# Altium schematic symbol library sun_library2.SchLib: 548 symbols (part 4 of 5)
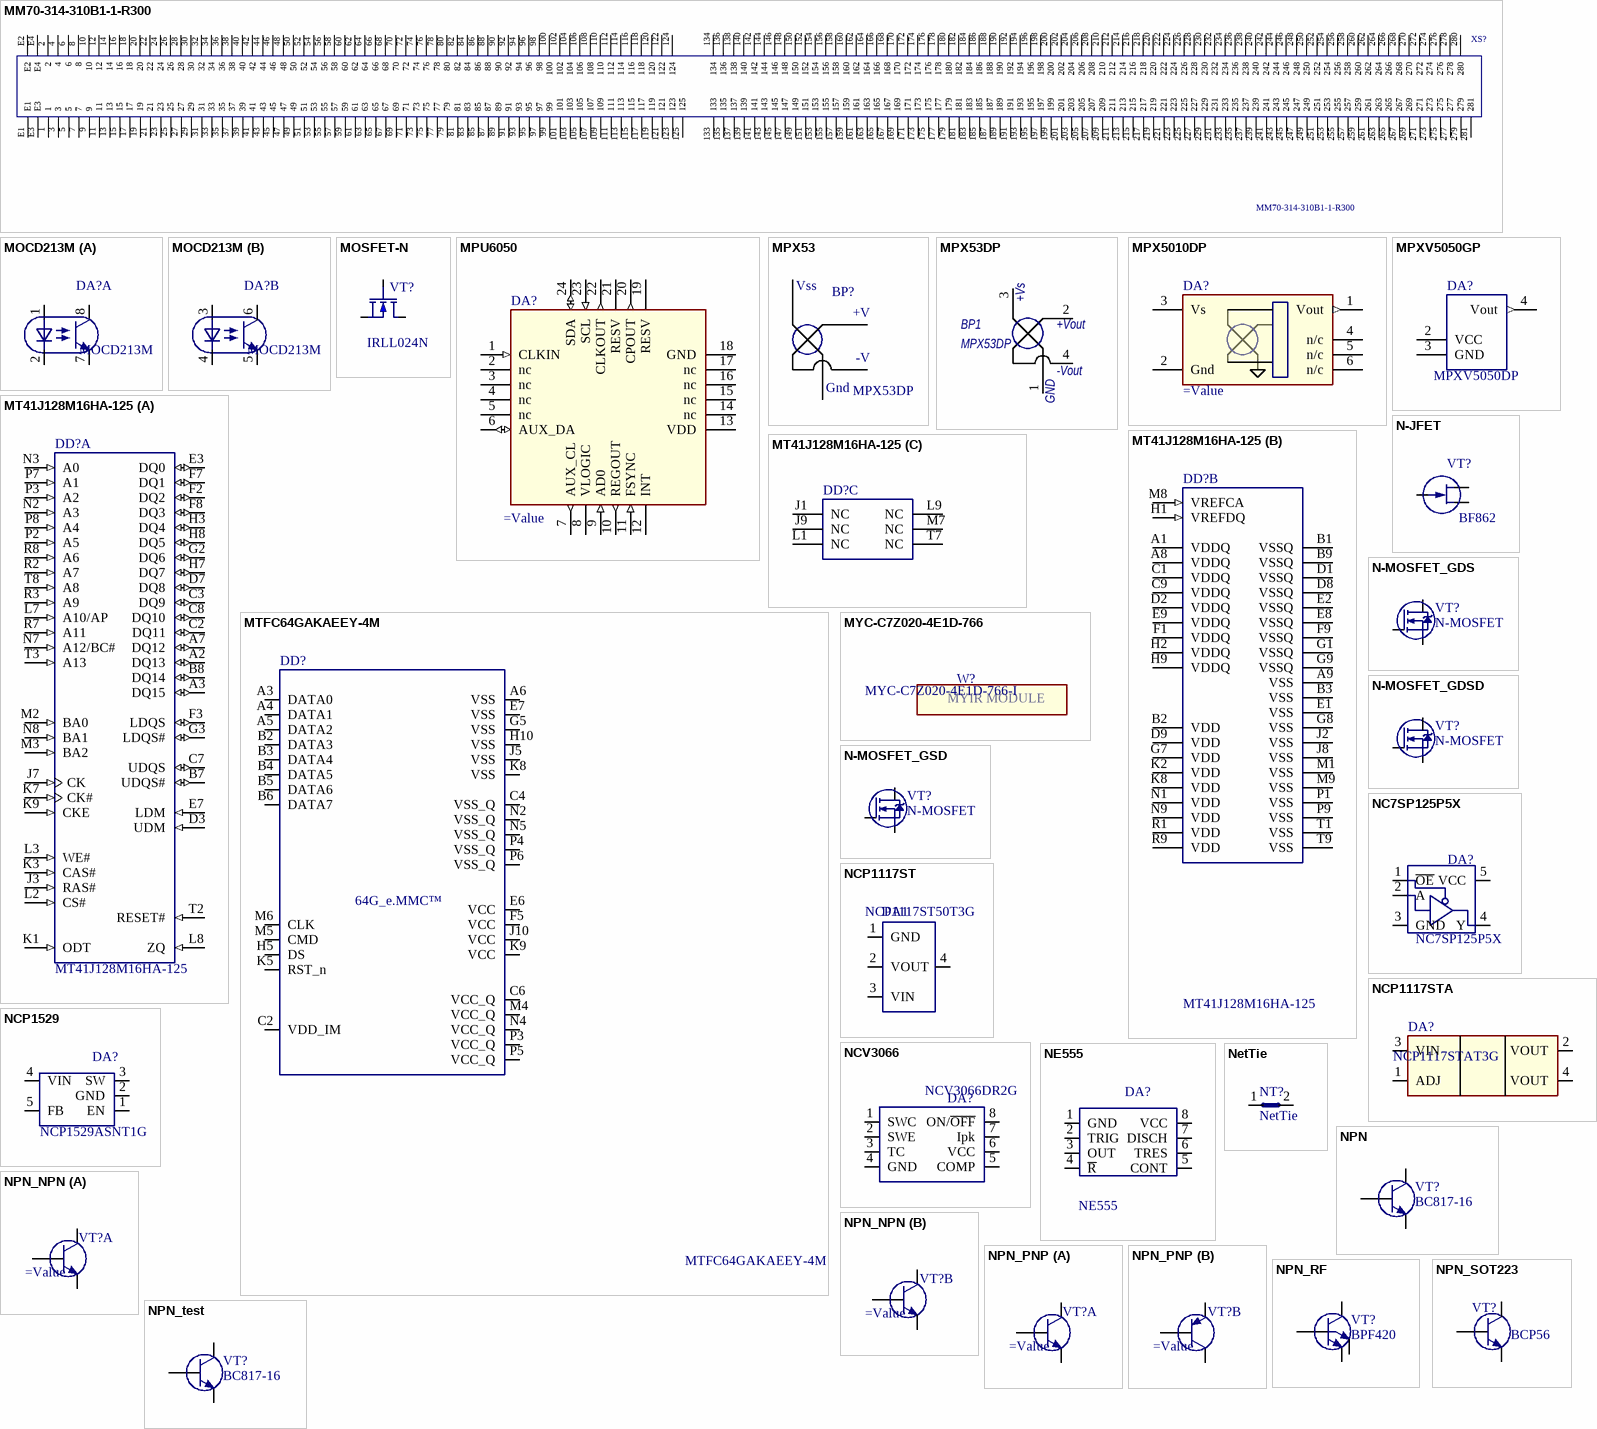
[diagram p48: symbols MM70-314-310B1-1-R300 to NPN_test]

## N-JFET
designator VT?, comment BF862
Транзистор N-channel junction FET; Value: BF862
pins: 1 S, 3 D, 3 G

## N-MOSFET_GDS
designator VT?, comment N-MOSFET
Транзистор N-channel MOSFET; Value: N-MOSFET
pins: 1 G, 2 D, 3 S

## N-MOSFET_GDSD
designator VT?, comment N-MOSFET
Транзистор N-channel MOSFET; Value: N-MOSFET
pins: 1 G, 2 D, 3 S, 4 D

## N-MOSFET_GSD
designator VT?, comment N-MOSFET
Транзистор N-channel MOSFET; Value: N-MOSFET
pins: 1 G, 2 S, 3 D

## NC7SP125P5X
designator DA?
м/сх; Value: NC7SP125P5X
pins: 1 ~{OE} (power), 2 A, 3 GND, 4 Y, 5 VCC

## NCP1117ST
designator DA1, comment NCP1117ST50T3G
Микросхема; Manufacturer: ON Semiconductor; Identifier: NCP1117ST50T3G SOT-223 ON Semiconductors; Case: SOT223; Part Number: NCP1117ST50T3G; Operating Temperature: 0 to 125 °C; Value: NCP1117ST50T3G
footprint SOT223
pins: 1 GND (power), 2 VOUT (power), 3 VIN (power), 4 VOUT (power)

## NCP1117STA
designator DA?, comment NCP1117STAT3G
1.0 A Low-Dropout Positive Adjustable  Voltage Regulator; Value: NCP1117STAT3G
pins: 1 ADJ (power), 2 VOUT (power), 3 VIN (power), 4 VOUT (power)

## NCP1529
designator DA?, comment NCP1529ASNT1G
IC step−down DC−DC converter. NCP1529ASNT1G; Value: NCP1529ASNT1G
pins: 1 EN, 2 GND, 3 SW, 4 VIN, 5 FB

## NCV3066
designator DA?, comment NCV3066DR2G
Constant Current Switching Regulator for LEDs; Value: NCV3066DR2G
pins: 1 SWC, 2 SWE (power), 3 TC, 4 GND, 5 COMP (power), 6 VCC, 7 Ipk, 8 ON/~{OFF} (power)

## NE555
designator DA?
м/сх; Value: NE555
pins: 1 GND (power), 2 TRIG, 3 OUT, 4 ~{R} (power), 5 CONT, 6 TRES, 7 DISCH, 8 VCC

## NetTie
designator NT?  (net tie, no BOM)
Value: NetTie
pins: 1, 2

## NPN
designator VT?, comment BC817-16
NPN Транзистор; Value: BC817-16
pins: 1 B, 2 E, 3 C

## NPN_NPN
designator VT?
Transistor
part A pins: 1 E, 2 B, 6 C
part B pins: 3 C, 4 E, 5 B

## NPN_PNP
designator VT?
Transistor
part A pins: 1 E, 2 B, 6 C
part B pins: 3 C, 4 E, 5 B

## NPN_RF
designator VT?, comment BPF420
NPN RF Транзистор; Value: BPF420
pins: 1 B, 2 E, 3 C, 4 E

## NPN_SOT223
designator VT?, comment BCP56
NPN Транзистор SOT223; Value: BCP56
pins: 1 B, 2 C, 3 E, 4 C

## NPN_test
designator VT?, comment BC817-16
NPN Транзистор; Value: BC817-16
footprint SOT23 - test (SOT-23; 3 Leads; Body 3.0 x 2.5 mm, inc. leads (LxW max))
pins: 1 B, 2 E, 3 C

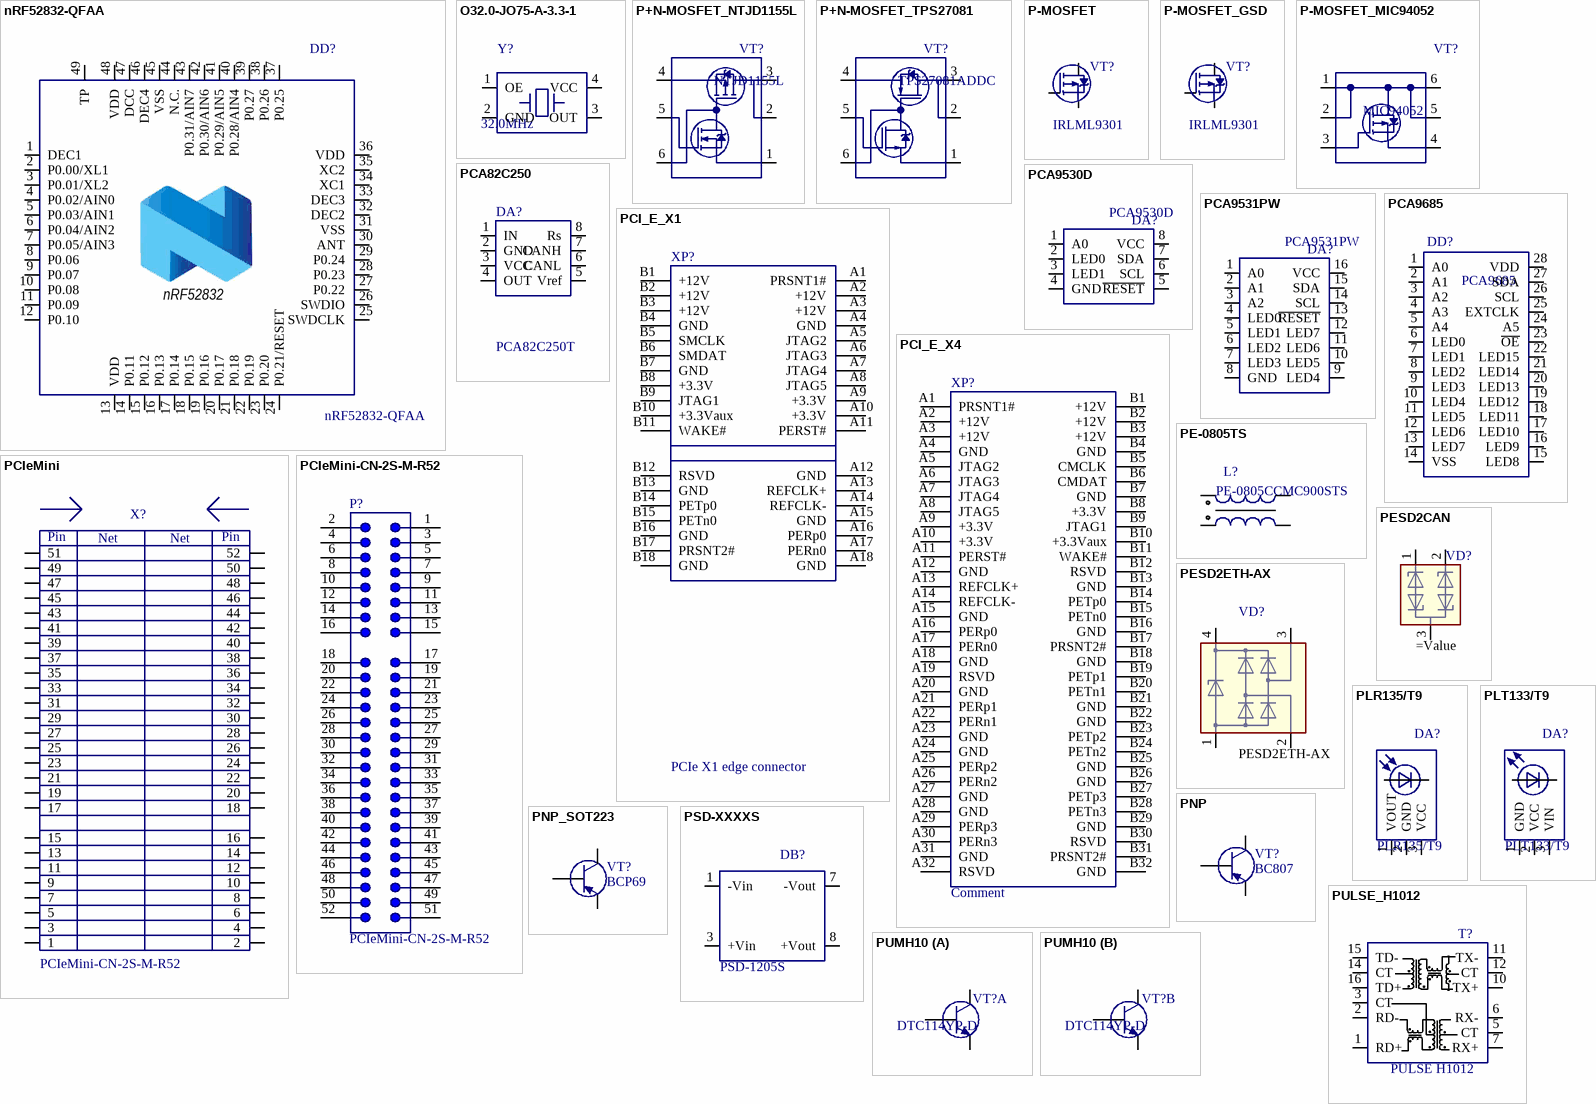
[diagram p35: symbols nRF52832-QFAA to PUMH10]

## nRF52832-QFAA
designator DD?
Микросхема nRF52832-QFAA Nordic Semiconductor; Value: nRF52832-QFAA
pins: 1 DEC1, 2 P0.00/XL1, 3 P0.01/XL2, 4 P0.02/AIN0, 5 P0.03/AIN1, 6 P0.04/AIN2, 7 P0.05/AIN3, 8 P0.06, 9 P0.07, 10 P0.08, 11 P0.09, 12 P0.10, 13 VDD, 14 P0.11, 15 P0.12, 16 P0.13, 17 P0.14, 18 P0.15, 19 P0.16, 20 P0.17, 21 P0.18, 22 P0.19, 23 P0.20, 24 P0.21/RESET, 25 SWDCLK, 26 SWDIO, 27 P0.22, 28 P0.23, 29 P0.24, 30 ANT, 31 VSS, 32 DEC2, 33 DEC3, 34 XC1, 35 XC2, 36 VDD, 37 P0.25, 38 P0.26, 39 P0.27, 40 P0.28/AIN4, 41 P0.29/AIN5, 42 P0.30/AIN6, 43 P0.31/AIN7, 44 N.C., 45 VSS, 46 DEC4, 47 DCC, 48 VDD, 49 TP
text: nRF52832

## O32.0-JO75-A-3.3-1
designator Y?, comment 32.0MHz
Резонатор кварцевый; Value: 32.0MHz
pins: 1 OE, 2 GND, 3 OUT, 4 VCC

## P+N-MOSFET_NTJD1155L
designator VT?, comment NTJD1155L
8 V,  1.3 A, High Side Load Switch with; Value: NTJD1155L
pins: 1, 2, 3, 4, 5, 6

## P+N-MOSFET_TPS27081
designator VT?, comment TPS27081ADDC
1.2V - 8V, 3A PFET High Side Load Switch; Value: TPS27081ADDC
pins: 1, 2, 3, 4, 5, 6

## P-MOSFET
designator VT?, comment IRLML9301
Value: IRLML9301
pins: 1 G, 2 D, 3 S

## P-MOSFET_GSD
designator VT?, comment IRLML9301
Value: IRLML9301
pins: 1 G, 2 S, 3 D

## P-MOSFET_MIC94052
designator VT?, comment MIC94052
5,5V 2A 84mOhm High Side Load Switch with; Value: MIC94052
pins: 1, 2, 3, 4, 5, 6

## PCA82C250
designator DA?, comment PCA82C250T
м/сх; Value: PCA82C250T
pins: 1 IN, 2 GND (power), 3 VCC (power), 4 OUT, 5 Vref (power), 6 CANL, 7 CANH, 8 Rs

## PCA9530D
designator DA?
2-bit I2C-bus LED dimmer; Value: PCA9530D
pins: 1 A0, 2 LED0 (power), 3 LED1, 4 GND, 5 ~{RESET} (power), 6 SCL, 7 SDA, 8 VCC (power)

## PCA9531PW
designator DA?
2-bit I2C-bus LED dimmer; Value: PCA9531PW
pins: 1 A0, 2 A1, 3 A2, 4 LED0 (power), 5 LED1 (power), 6 LED2 (power), 7 LED3 (power), 8 GND, 9 LED4 (power), 10 LED5 (power), 11 LED6 (power), 12 LED7 (power), 13 ~{RESET} (power), 14 SCL, 15 SDA, 16 VCC (power)

## PCA9685
designator DD?
16 chanel PWM I2C controller; Value: PCA9685
pins: 1 A0, 2 A1, 3 A2, 4 A3, 5 A4, 6 LED0, 7 LED1, 8 LED2, 9 LED3, 10 LED4 (power), 11 LED5, 12 LED6, 13 LED7, 14 VSS, 15 LED8, 16 LED9, 17 LED10, 18 LED11, 19 LED12, 20 LED13 (power), 21 LED14 (power), 22 LED15 (power), 23 ~{OE} (power), 24 A5 (power), 25 EXTCLK (power), 26 SCL (power), 27 SDA (power), 28 VDD (power)

## PCI_E_X1
designator XP?, comment PCIe X1 edge connector
Value: PCIe X1 edge connector
pins: A1 PRSNT1#, A2 +12V, A3 +12V, A4 GND, A5 JTAG2, A6 JTAG3, A7 JTAG4, A8 JTAG5, A9 +3.3V, A10 +3.3V, A11 PERST#, A12 GND, A13 REFCLK+, A14 REFCLK-, A15 GND, A16 PERp0, A17 PERn0, A18 GND, B1 +12V, B2 +12V, B3 +12V, B4 GND, B5 SMCLK, B6 SMDAT, B7 GND, B8 +3.3V, B9 JTAG1, B10 +3.3Vaux, B11 WAKE#, B12 RSVD, B13 GND, B14 PETp0, B15 PETn0, B16 GND, B17 PRSNT2#, B18 GND

## PCI_E_X4
designator XP?, comment Comment
Value: Comment
pins: A1 PRSNT1#, A2 +12V, A3 +12V, A4 GND, A5 JTAG2, A6 JTAG3, A7 JTAG4, A8 JTAG5, A9 +3.3V, A10 +3.3V, A11 PERST#, A12 GND, A13 REFCLK+, A14 REFCLK-, A15 GND, A16 PERp0, A17 PERn0, A18 GND, A19 RSVD, A20 GND, A21 PERp1, A22 PERn1, A23 GND, A24 GND, A25 PERp2, A26 PERn2, A27 GND, A28 GND, A29 PERp3, A30 PERn3, A31 GND, A32 RSVD, B1 +12V, B2 +12V, B3 +12V, B4 GND, B5 CMCLK, B6 CMDAT, B7 GND, B8 +3.3V, B9 JTAG1, B10 +3.3Vaux, B11 WAKE#, B12 RSVD, B13 GND, B14 PETp0, B15 PETn0, B16 GND, B17 PRSNT2#, B18 GND, B19 PETp1, B20 PETn1, B21 GND, B22 GND, B23 PETp2, B24 PETn2, B25 GND, B26 GND, B27 PETp3, B28 PETn3, B29 GND, B30 RSVD, B31 PRSNT2#, B32 GND

## PCIeMini
designator X?, comment PCIeMini-CN-2S-M-R52  (no BOM)
Golden finger, PCIeMini, Dual, Staggered, Pitch 0.8mm, 52-Position; Value: PCIeMini-CN-2S-M-R52
pins: 1, 2, 3, 4, 5, 6, 7, 8, 9, 10, 11, 12, 13, 14, 15, 16, 17, 18, 19, 20, 21, 22, 23, 24, 25, 26, 27, 28, 29, 30, 31, 32, 33, 34, 35, 36, 37, 38, 39, 40, 41, 42, 43, 44, 45, 46, 47, 48, 49, 50, 51, 52
text: Net; Pin

## PCIeMini-CN-2S-M-R52
designator P?  (no BOM)
Golden finger, PCIeMini, Dual, Staggered, Pitch 0.8mm, 52-Position; Value: PCIeMini-CN-2S-M-R52
pins: 1, 2, 3, 4, 5, 6, 7, 8, 9, 10, 11, 12, 13, 14, 15, 16, 17, 18, 19, 20, 21, 22, 23, 24, 25, 26, 27, 28, 29, 30, 31, 32, 33, 34, 35, 36, 37, 38, 39, 40, 41, 42, 43, 44, 45, 46, 47, 48, 49, 50, 51, 52

## PE-0805TS
designator L?, comment PE-0805CCMC900STS
2-Line Chip Style  Common Mode Chokes, Pulse; Value: PE-0805CCMC900STS
pins: 1, 2, 3, 4

## PESD2CAN
designator VD?
pins: 1 C1, 2 C2, 3 COM

## PESD2ETH-AX
designator VD?
Value: PESD2ETH-AX
pins: 1, 2, 3, 4

## PLR135/T9
designator DA?
Photolink- Fiber Optic Receiver; Value: PLR135/T9
pins: 1 VOUT (power), 2 GND, 3 NC (power) hidden, 3 VCC, 6 B hidden

## PLT133/T9
designator DA?
Photo-link Light Transmitter Unit; Value: PLT133/T9
pins: 1 GND (power), 2 VCC, 3 NC (power) hidden, 3 VIN, 6 B hidden

## PNP
designator VT?, comment BC807
NPN Транзистор; Value: BC807
pins: 1 B, 2 E, 3 C

## PNP_SOT223
designator VT?, comment BCP69
PNP Транзистор; Value: BCP69
pins: 1 B, 2 C, 3 E, 4 C

## PSD-XXXXS
designator DВ?, comment PSD-1205S
м/сх; Value: PSD-1205S
pins: 1 -Vin (power), 3 +Vin (power), 7 -Vout (power), 8 +Vout (power), 14 NC hidden

## PULSE_H1012
designator T?, comment PULSE H1012
трансформатор; тип: PULSE H1012
footprint PULSE_H1012
pins: 1 RD+, 2 RD-, 3 CT, 5 CT, 6 RX-, 7 RX+, 10 TX+, 11 TX-, 12 CT, 14 CT, 15 TD-, 16 TD+

## PUMH10
designator VT?, comment DTC114YP-D
Value: DTC114YP-D
part A pins: 1 E, 2 B, 6 C
part B pins: 3 C, 4 E, 5 B

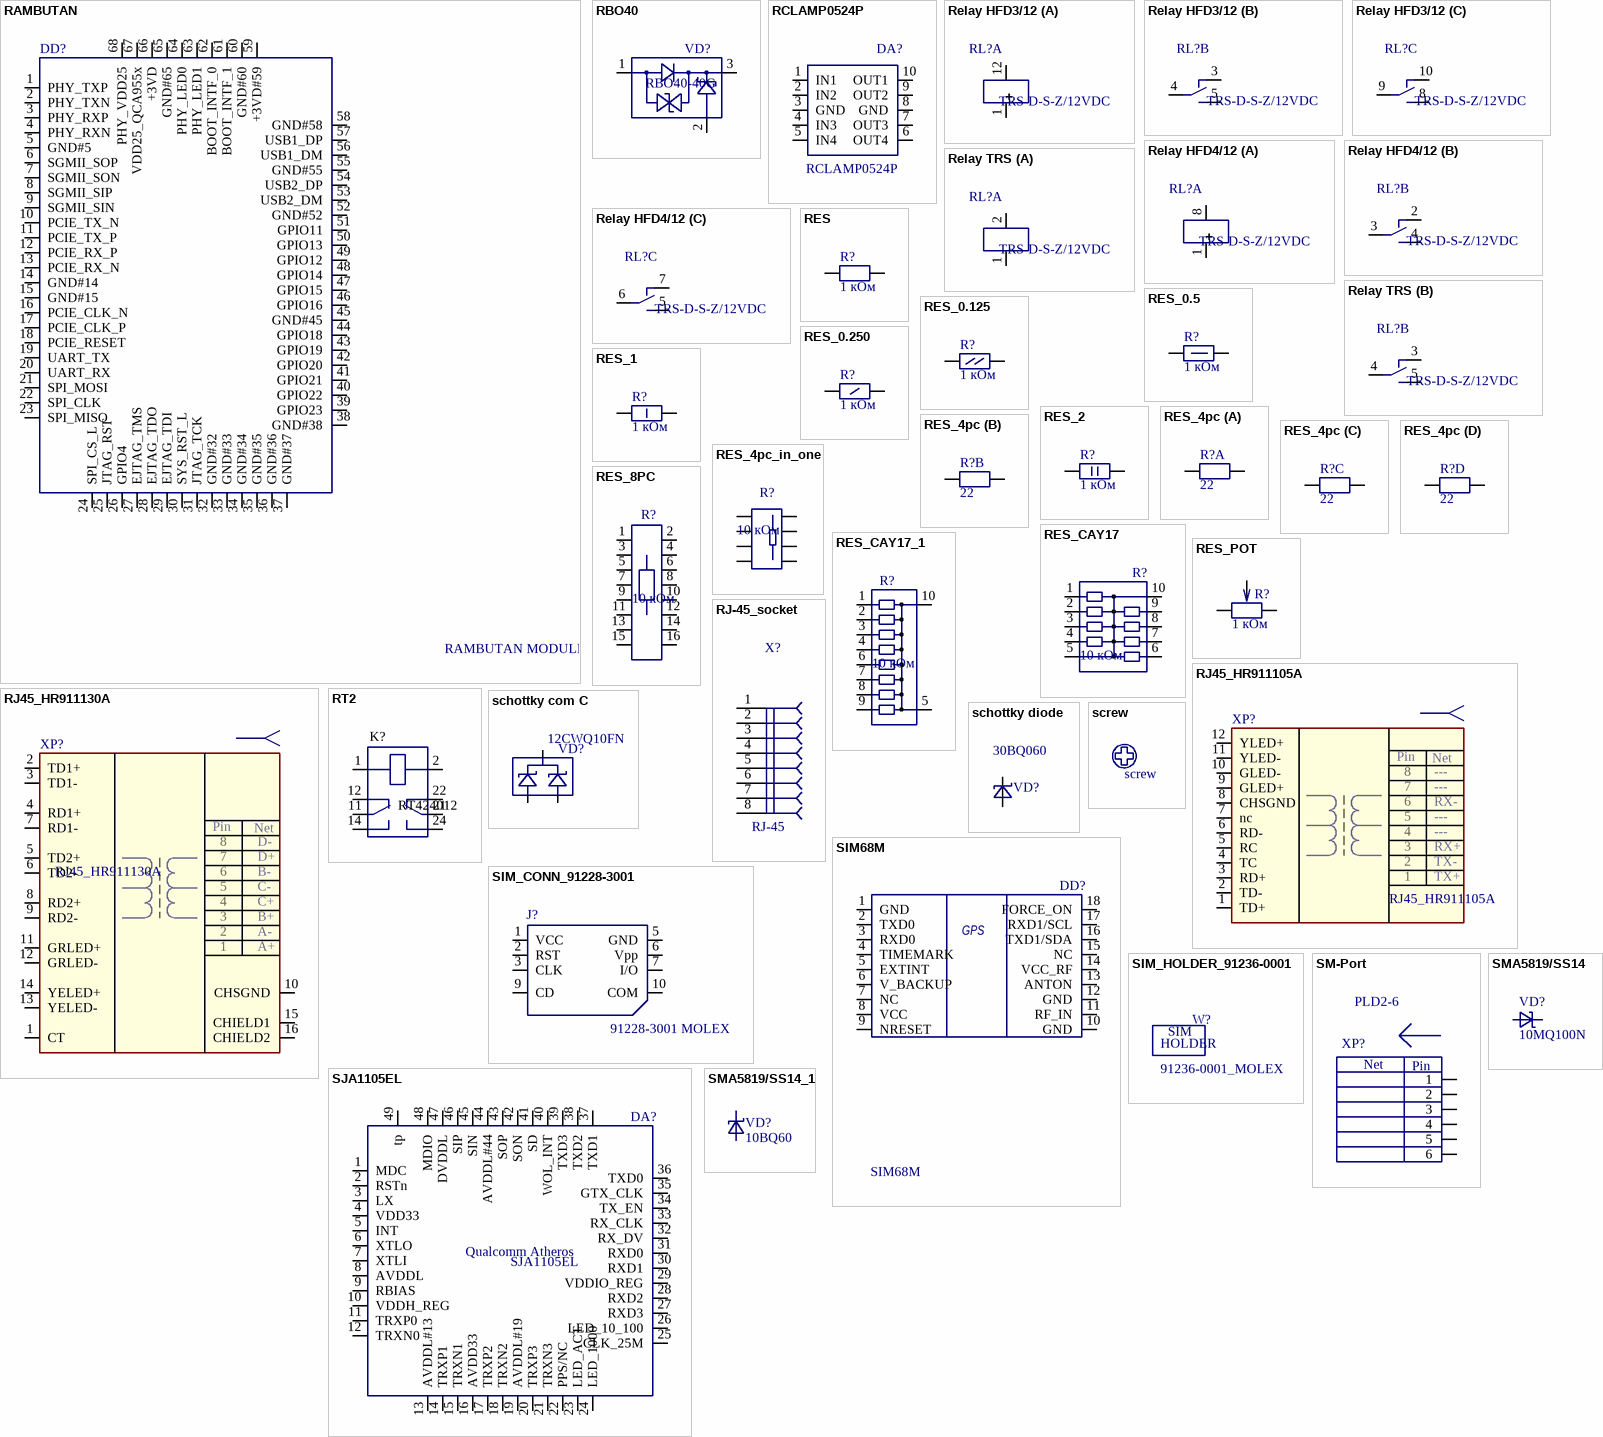
[diagram p36: symbols RAMBUTAN to SMA5819/SS14_1]

## RAMBUTAN
designator DD?, comment RAMBUTAN MODULE
Value: RAMBUTAN MODULE
pins: 1 PHY_TXP, 2 PHY_TXN, 3 PHY_RXP, 4 PHY_RXN, 5 GND#5, 6 SGMII_SOP, 7 SGMII_SON, 8 SGMII_SIP, 9 SGMII_SIN, 10 PCIE_TX_N, 11 PCIE_TX_P, 12 PCIE_RX_P, 13 PCIE_RX_N, 14 GND#14, 15 GND#15, 16 PCIE_CLK_N, 17 PCIE_CLK_P, 18 PCIE_RESET, 19 UART_TX, 20 UART_RX, 21 SPI_MOSI, 22 SPI_CLK, 23 SPI_MISO, 24 SPI_CS_L, 25 JTAG_RST, 26 GPIO4, 27 EJTAG_TMS, 28 EJTAG_TDO, 29 EJTAG_TDI, 30 SYS_RST_L, 31 JTAG_TCK, 32 GND#32, 33 GND#33, 34 GND#34, 35 GND#35, 36 GND#36, 37 GND#37, 38 GND#38, 39 GPIO23, 40 GPIO22, 41 GPIO21, 42 GPIO20, 43 GPIO19, 44 GPIO18, 45 GND#45, 46 GPIO16, 47 GPIO15, 48 GPIO14, 49 GPIO12, 50 GPIO13, 51 GPIO11, 52 GND#52, 53 USB2_DM, 54 USB2_DP, 55 GND#55, 56 USB1_DM, 57 USB1_DP, 58 GND#58, 59 +3VD#59, 60 GND#60, 61 BOOT_INTF_1, 62 BOOT_INTF_0, 63 PHY_LED1, 64 PHY_LED0, 65 GND#65, 66 +3VD, 67 VDD25_QCA955x, 68 PHY_VDD25, A7 RFU hidden, E5 RFU hidden, E8 RFU hidden, G3 RFU hidden, G10 RFU hidden, K6 RFU hidden, K7 RFU hidden, K10 RFU hidden, P7 RFU hidden, P10 RFU hidden

## RBO40
designator VD?, comment RBO40-40G
OVERVOLTAGE PROTECTION STMicroelectronics; Value: RBO40-40G
pins: 1, 2, 3

## RCLAMP0524P
designator DA?
TVS array designed to; Value: RCLAMP0524P
pins: 1 IN1, 2 IN2, 3 GND, 4 IN3, 5 IN4, 6 OUT4, 7 OUT3, 8 GND, 9 OUT2, 10 OUT1

## Relay HFD3/12
designator RL?, comment TRS-D-S-Z/12VDC
Relay 2A 12VDC 15x7,5x9mm; Manufacturer: TIANBO; Text Field1: Реле BS-115C; Тип: -; PartNumber: TRS-D-S-Z/12VDC
footprint TRS-D-S-Z (Relay 30A TIANBO TRS-D-S-Z/12VDC 12.3x13.2x9.8mm)
part A pins: 1, 12
part B pins: 3, 4, 5
part C pins: 8, 9, 10

## Relay HFD4/12
designator RL?, comment TRS-D-S-Z/12VDC
Relay 2A 12VDC 15x7,5x9mm; Manufacturer: TIANBO; Text Field1: Реле BS-115C; Тип: -; PartNumber: TRS-D-S-Z/12VDC
footprint TRS-D-S-Z (Relay 30A TIANBO TRS-D-S-Z/12VDC 12.3x13.2x9.8mm)
part A pins: 1, 8
part B pins: 2, 3, 4
part C pins: 5, 6, 7

## Relay TRS
designator RL?, comment TRS-D-S-Z/12VDC
Relay 30A TIANBO TRS-D-S-Z/12VDC 12.3x13.2x9.8mm; Text Field1: Реле BS-115C; Тип: -; Manufacturer: TIANBO; PartNumber: TRS-D-S-Z/12VDC
footprint TRS-D-S-Z (Relay 30A TIANBO TRS-D-S-Z/12VDC 12.3x13.2x9.8mm)
part A pins: 1, 2
part B pins: 3, 4, 5

## RES
designator R?, comment 1 кОм
Резистор; Value: 1 кОм
pins: 1, 2

## RES_0.5
designator R?, comment 1 кОм
Резистор; Value: 1 кОм
pins: 1, 2

## RES_0.125
designator R?, comment 1 кОм
Резистор; Value: 1 кОм
pins: 1, 2

## RES_0.250
designator R?, comment 1 кОм
Резистор; Value: 1 кОм
pins: 1, 2

## RES_1
designator R?, comment 1 кОм
Резистор; Value: 1 кОм
pins: 1, 2

## RES_2
designator R?, comment 1 кОм
Резистор; Value: 1 кОм
pins: 1, 2

## RES_4pc
designator R?, comment 22
Резистор; Value: 22
part A pins: 1, 8
part B pins: 2, 7
part C pins: 3, 6
part D pins: 4, 5

## RES_4pc_in_one
designator R?, comment 10 кОм
Резистор набор CAT16-220J4; Value: 10 кОм
pins: 1, 2, 3, 4, 5, 6, 7, 8

## RES_8PC
designator R?, comment 10 кОм
Резистор набор YC248-JR-0710KL; Value: 10 кОм
pins: 1, 2, 3, 4, 5, 6, 7, 8, 9, 10, 11, 12, 13, 14, 15, 16

## RES_CAY17
designator R?, comment 10 кОм
Резистор набор YC248-JR-0710KL; Value: 10 кОм
pins: 1, 2, 3, 4, 5, 6, 7, 8, 9, 10

## RES_CAY17_1
designator R?, comment 10 кОм
Резистор набор YC248-JR-0710KL; Value: 10 кОм
pins: 1, 2, 3, 4, 5, 6, 7, 8, 9, 10

## RES_POT
designator R?, comment 1 кОм
Резистор подстроечный 3303X-3-103; Value: 1 кОм
pins: 1, 2, 3

## RJ45_HR911105A
designator XP?
розетка на плату; Value: RJ45_HR911105A
pins: 1 TD+, 2 TD-, 3 RD+, 4 TC, 5 RC, 6 RD-, 7 nc, 8 CHSGND, 9 GLED+, 10 GLED-, 11 YLED-, 12 YLED+
text: Net; Pin; ---; RX-; RX+; TX-; TX+

## RJ45_HR911130A
designator XP?
розетка на плату; Value: RJ45_HR911130A
pins: 1 CT, 2 TD1+, 3 TD1-, 4 RD1+, 5 TD2+, 6 TD2-, 7 RD1-, 8 RD2+, 9 RD2-, 10 CHSGND, 11 GRLED+, 12 GRLED-, 13 YELED-, 14 YELED+, 15 CHIELD1, 16 CHIELD2
text: Net; Pin; D-; D+; B-; C-; C+; B+; A-; A+

## RJ-45_socket
designator X?, comment RJ-45
розетка на плату; Value: RJ-45
pins: 1, 2, 3, 4, 5, 6, 7, 8

## RT2
designator K?, comment RT424012
Power PCB Relay RT2 TE Connectivity; Value: RT424012
pins: 1, 2, 11, 12, 14, 21, 22, 24

## schottky com C
designator VD?, comment 12CWQ10FN
Value: 12CWQ10FN
pins: 2 A2, A1, C

## schottky diode
designator VD?, comment 30BQ060
Value: 30BQ060
pins: 1 C, 2 A

## screw
designator screw?  (mechanical)
Value: screw

## SIM68M
designator DD?
GPS module; Value: SIM68M
pins: 1 GND, 2 TXD0, 3 RXD0, 4 TIMEMARK, 5 EXTINT, 6 V_BACKUP, 7 NC, 8 VCC, 9 NRESET, 10 GND, 11 RF_IN, 12 GND, 13 ANTON, 14 VCC_RF, 15 NC, 16 TXD1/SDA, 17 RXD1/SCL, 18 FORCE_ON
text: GPS

## SIM_CONN_91228-3001
designator J?, comment 91228-3001 MOLEX
SIM CONN 91228-3001 MOLEX; Value: 91228-3001 MOLEX
footprint MOLEX_91228-3001_SIM HOLDER (91228-3001 / 91236-0001_SIM HOLDER MOLEX)
pins: 1 VCC (hiz), 2 RST, 3 CLK (power), 5 GND (power), 6 Vpp, 7 I/O, 9 CD, 10 COM

## SIM_HOLDER_91236-0001
designator W?, comment 91236-0001_MOLEX  (mechanical)
SIM_HOLDER_91236-0001 MOLEX; Value: 91236-0001_MOLEX
pins: 3 NC (power) hidden, 6 B hidden
text: SIM; HOLDER

## SJA1105EL
designator DA?
5-port automotive Ethernet switch; Value: SJA1105EL
pins: 1 MDC, 2 RSTn, 3 LX, 4 VDD33, 5 INT, 6 XTLO (power), 7 XTLI (power), 8 AVDDL, 9 RBIAS, 10 VDDH_REG, 11 TRXP0, 12 TRXN0, 13 AVDDL#13, 14 TRXP1 (power), 15 TRXN1 (power), 16 AVDD33 (power), 17 TRXP2 (power), 18 TRXN2, 19 AVDDL#19, 20 TRXP3, 21 TRXN3 (power), 22 PPS/NC (power), 23 LED_ACT, 24 LED_1000, 25 CLK_25M, 26 LED_10_100, 27 RXD3, 28 RXD2, 29 VDDIO_REG, 30 RXD1 (power), 31 RXD0 (power), 32 RX_DV, 33 RX_CLK, 34 TX_EN, 35 GTX_CLK, 36 TXD0, 37 TXD1, 38 TXD2, 39 TXD3, 40 WOL_INT, 41 SD, 42 SON, 43 SOP, 44 AVDDL#44, 45 SIN, 46 SIP, 47 DVDDL, 48 MDIO, 49 tp
text: Qualcomm Atheros

## SM-Port
designator XP?, comment PLD2-6
PLS2-4 Вилка на плату, шаг 2мм; Value: PLD2-6
pins: 1, 2, 3, 4, 5, 6
text: Pin; Net

## SMA5819/SS14
designator VD?, comment 10MQ100N
Диод Шоттки; Value: 10MQ100N
pins: A, C

## SMA5819/SS14_1
designator VD?, comment 10BQ60
Диод Шоттки; Value: 10BQ60
pins: A, C

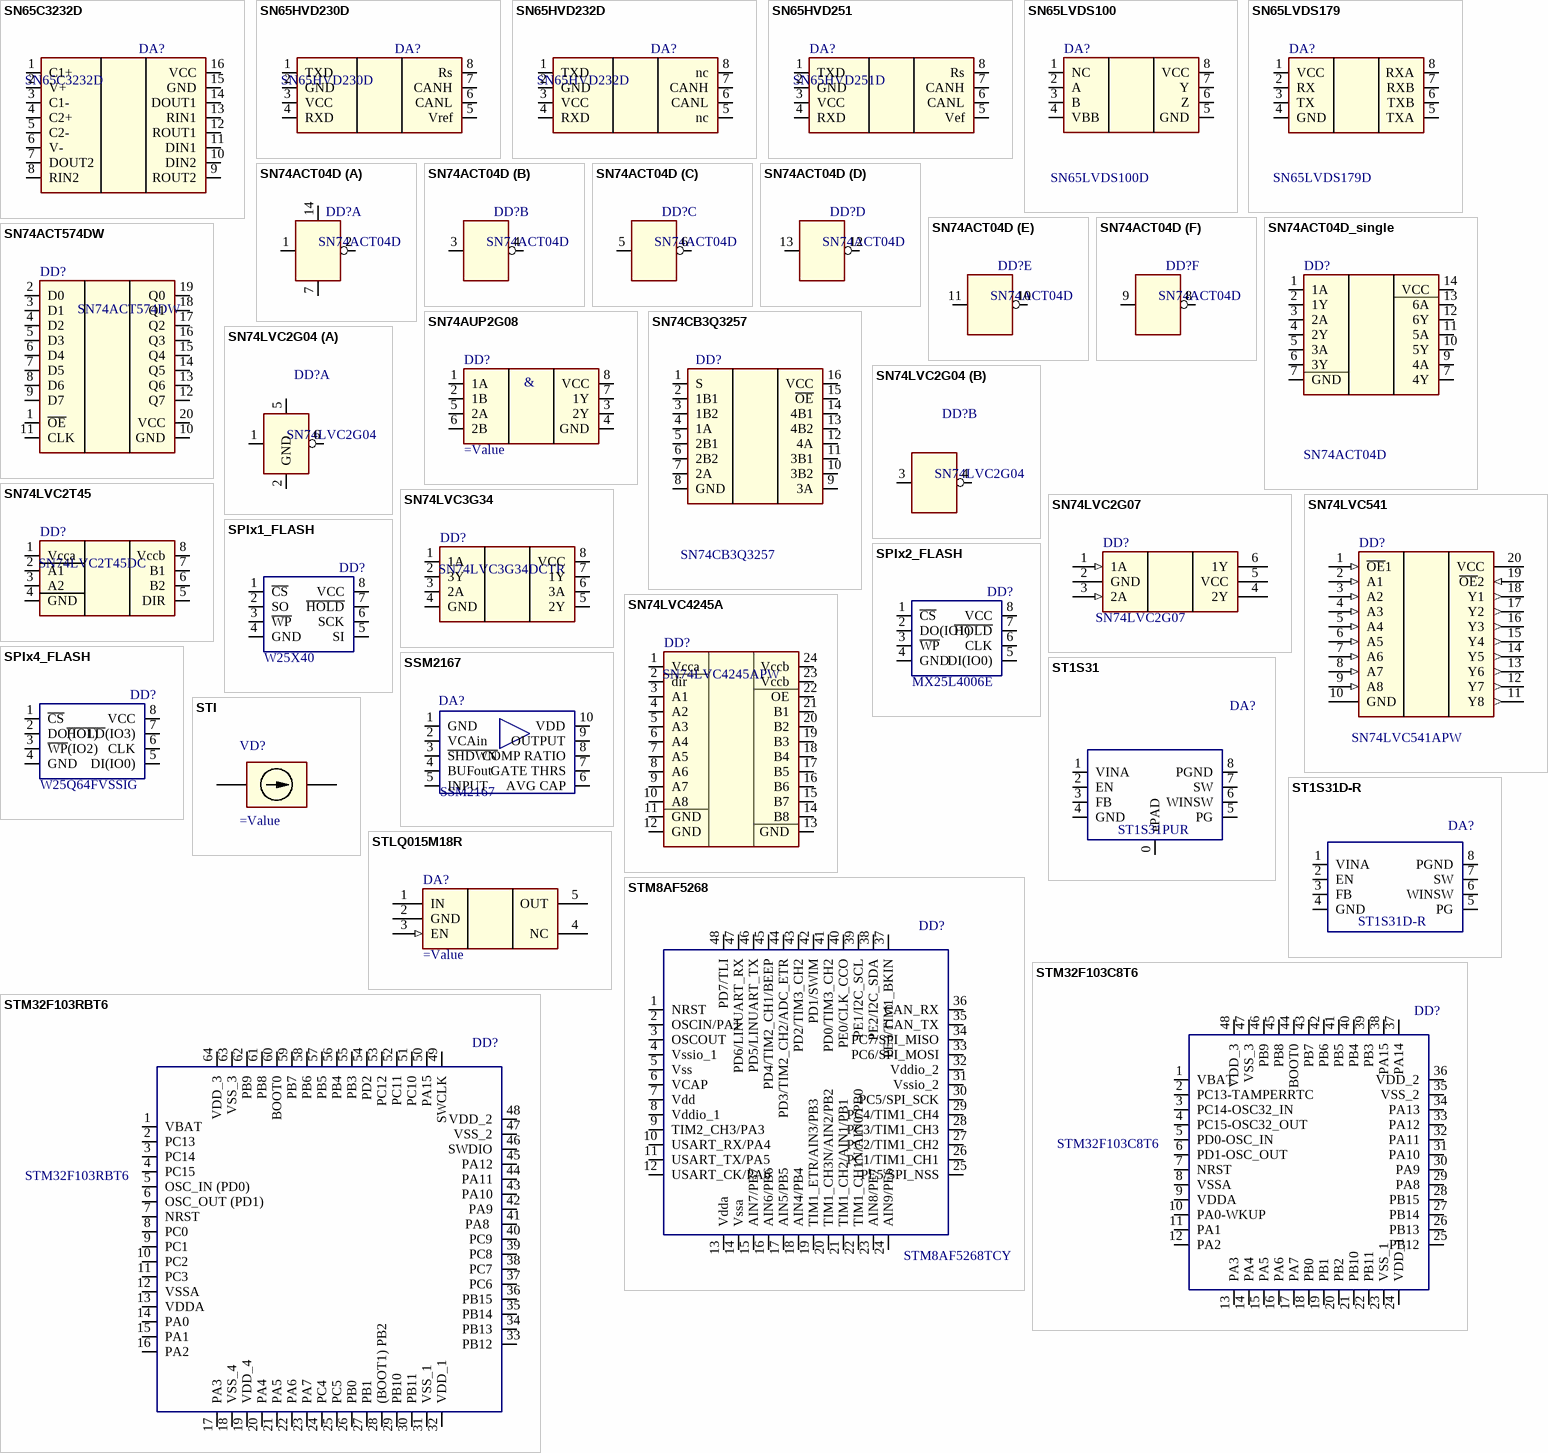
[diagram p37: symbols SN65C3232D to STM32F103RBT6]

## SN65C3232D
designator DA?
RS-232 3-5.5V 2 Ch Compat Line Drvr/Rcvr; Value: SN65C3232D
pins: 1 C1+, 2 V+, 3 C1-, 4 C2+, 5 C2-, 6 V-, 7 DOUT2, 8 RIN2, 9 ROUT2, 10 DIN2, 11 DIN1, 12 ROUT1, 13 RIN1, 14 DOUT1, 15 GND, 16 VCC

## SN65HVD230D
designator DA?
HIGH-VOLTAGE, High-speed 3v3 CAN transceiver; Value: SN65HVD230D
pins: 1 TXD, 2 GND, 3 VCC, 4 RXD, 5 Vref, 6 CANL, 7 CANH, 8 Rs

## SN65HVD232D
designator DA?
HIGH-VOLTAGE, High-speed 3v3 CAN transceiver; Value: SN65HVD232D
pins: 1 TXD, 2 GND, 3 VCC, 4 RXD, 5 nc, 6 CANL, 7 CANH, 8 nc

## SN65HVD251
designator DA?, comment SN65HVD251D
HIGH-VOLTAGE, High-speed CAN transceiver; Value: SN65HVD251D
pins: 1 TXD, 2 GND, 3 VCC, 4 RXD, 5 Vef, 6 CANL, 7 CANH, 8 Rs

## SN65LVDS100
designator DA?, comment SN65LVDS100D
м/сх; Value: SN65LVDS100D
pins: 1 NC (power), 2 A, 3 B, 4 VBB (power), 5 GND (power), 6 Z, 7 Y, 8 VCC (power)

## SN65LVDS179
designator DA?, comment SN65LVDS179D
м/сх; Value: SN65LVDS179D
pins: 1 VCC (power), 2 RX, 3 TX, 4 GND (power), 5 TXA, 6 TXB, 7 RXB, 8 RXA

## SN74ACT04D
designator DD?
Hex Inverter; Value: SN74ACT04D
part A pins: 1 A, 2 ~{O}, 7 GND, 14 VCC
part B pins: 3 A, 4 ~{O}
part C pins: 5 A, 6 ~{O}
part D pins: 12 ~{O}, 13 A
part E pins: 10 ~{O}, 11 A
part F pins: 8 ~{O}, 9 A

## SN74ACT04D_single
designator DD?, comment SN74ACT04D
м/сх, инвертор 6 каналов; Value: SN74ACT04D
pins: 1 1A, 2 1Y, 3 2A, 4 2Y, 5 3A, 6 3Y, 7 GND (power), 7 4Y, 9 4A, 10 5Y, 11 5A, 12 6Y, 13 6A, 14 VCC (power)

## SN74ACT574DW
designator DD?
Микросхема SN74ACT574DW SO-20 Texas Instr.; Value: SN74ACT574DW
pins: 1 ~{OE}, 2 D0, 3 D1, 4 D2, 5 D3, 6 D4, 7 D5, 8 D6, 9 D7, 10 GND (power), 11 CLK, 12 Q7, 13 Q6, 14 Q5, 15 Q4, 16 Q3, 17 Q2, 18 Q1, 19 Q0, 20 VCC (power)

## SN74AUP2G08
designator DD?
Low-power dual 2-input AND gate
pins: 1 1A, 2 1B, 3 2Y, 4 GND, 5 2A, 6 2B, 7 1Y, 8 VCC
text: &

## SN74CB3Q3257
designator DD?
4-Bit 1-of-2 FET Multiplexer/Demultiplexer; Value: SN74CB3Q3257
pins: 1 S, 2 1B1, 3 1B2, 4 1A, 5 2B1, 6 2B2, 7 2A, 8 GND, 9 3A, 10 3B2 (power), 11 3B1, 12 4A, 13 4B2, 14 4B1, 15 ~{OE}, 16 VCC

## SN74LVC2G04
designator DD?
Dual Inverter Gate; Value: SN74LVC2G04
part A pins: 1 A, 2 GND, 5 VCC, 6 ~{O}
part B pins: 3 A, 4 ~{O}

## SN74LVC2G07
designator DD?
Микросхема; Part Number: SN74LVC2G07DBVR; Manufacturer: Texas Instruments; Identifier: SN74LVC2G07 SOT23-6 Texas Instruments; Case: SOT23-6; Operating Temperature: -40°C to 125°C; Value: SN74LVC2G07
pins: 1 1A (in), 2 GND (power), 3 2A (in), 4 2Y (oc), 5 VCC (power), 6 1Y (oc)

## SN74LVC2T45
designator DD?, comment SN74LVC2T45DC
OCTAL BUS TRANSCEIVER AND 3.3-V TO 5-V SHIFTER; Value: SN74LVC2T45DC
pins: 1 Vcca, 2 A1, 3 A2, 4 GND, 5 DIR, 6 B2, 7 B1, 8 Vccb

## SN74LVC3G34
designator DD?, comment SN74LVC3G34DCTR
Triple Buffer Gate; Value: SN74LVC3G34DCTR
pins: 1 1A, 2 3Y, 3 2A, 4 GND, 5 2Y, 6 3A, 7 1Y, 8 VCC

## SN74LVC541
designator DD?, comment SN74LVC541APW
Octal Buffers/Drivers With 3-State Outputs; Value: SN74LVC541APW
pins: 1 ~{OE}1 (in), 2 A1 (in), 3 A2 (in), 4 A3 (in), 5 A4 (in), 6 A5 (in), 7 A6 (in), 8 A7 (in), 9 A8 (in), 10 GND (power), 11 Y8 (out), 12 Y7 (out), 13 Y6 (out), 14 Y5 (out), 15 Y4 (out), 16 Y3 (out), 17 Y2 (out), 18 Y1 (out), 19 ~{OE}2 (in), 20 VCC (power)

## SN74LVC4245A
designator DD?, comment SN74LVC4245APW
OCTAL BUS TRANSCEIVER AND 3.3-V TO 5-V SHIFTER; Value: SN74LVC4245APW
pins: 1 Vcca, 2 dir, 3 A1, 4 A2, 5 A3, 6 A4, 7 A5, 8 A6, 9 A7, 10 A8, 11 GND, 12 GND, 13 GND, 14 B8, 15 B7, 16 B6, 17 B5, 18 B4, 19 B3, 20 B2, 21 B1, 22 OE, 23 Vccb, 24 Vccb

## SPIx1_FLASH
designator DD?, comment W25X40
Value: W25X40
pins: 1 ~{CS}, 2 SO, 3 ~{WP}, 4 GND, 5 SI, 6 SCK, 7 ~{HOLD}, 8 VCC

## SPIx2_FLASH
designator DD?, comment MX25L4006E
SPIx2_FLASH; Value: MX25L4006E
pins: 1 ~{CS}, 2 DO(IO1), 3 ~{WP}, 4 GND, 5 DI(IO0), 6 CLK, 7 ~{HOLD}, 8 VCC

## SPIx4_FLASH
designator DD?, comment W25Q64FVSSIG
Value: W25Q64FVSSIG
pins: 1 ~{CS}, 2 DO(IO1), 3 ~{WP}(IO2), 4 GND, 5 DI(IO0), 6 CLK, 7 ~{HOLD}(IO3), 8 VCC

## SSM2167
designator DA?
МикросхемаSSM2167-1RMZ-R7 MSOP10  Analog Devices; Value: SSM2167
pins: 1 GND, 2 VCAin, 3 ~{SH}~{DWN}, 4 BUFout, 5 INPUT, 6 AVG CAP, 7 GATE THRS, 8 COMP RATIO, 9 OUTPUT, 10 VDD

## ST1S31
designator DA?, comment ST1S31PUR
3A DC step-down switching regulator; Value: ST1S31PUR
pins: 0 ePAD (power), 1 VINA (power), 2 EN (power), 3 FB (power), 4 GND, 5 PG, 6 WINSW (power), 7 SW (power), 8 PGND (power)

## ST1S31D-R
designator DA?
3A DC step-down switching regulator; Value: ST1S31D-R
pins: 1 VINA (power), 2 EN (power), 3 FB (power), 4 GND, 5 PG, 6 WINSW (power), 7 SW (power), 8 PGND (power)

## STI
designator VD?
Штыри однорядные, 1х2
pins: 1 C, 2 A

## STLQ015M18R
designator DA?
150 mA, 1V8 ultra low quiescent current linear voltage regulator
pins: 1 IN (power), 2 GND (power), 3 EN (in), 4 NC, 5 OUT (power)

## STM8AF5268
designator DD?, comment STM8AF5268TCY
Микросхема; Value: *
pins: 1 NRST, 2 OSCIN/PA1, 3 OSCOUT, 4 Vssio_1, 5 Vss, 6 VCAP, 7 Vdd, 8 Vddio_1, 9 TIM2_CH3/PA3, 10 USART_RX/PA4, 11 USART_TX/PA5, 12 USART_CK/PA6, 13 Vdda, 14 Vssa, 15 AIN7/PB7, 16 AIN6/PB6, 17 AIN5/PB5, 18 AIN4/PB4, 19 TIM1_ETR/AIN3/PB3, 20 TIM1_CH3N/AIN2/PB2, 21 TIM1_CH2/AIN1/PB1, 22 TIM1_CH1N/AIN0/PB0, 23 AIN8/PE7, 24 AIN9/PE6, 25 PE5/SPI_NSS, 26 PC1/TIM1_CH1, 27 PC2/TIM1_CH2, 28 PC3/TIM1_CH3, 29 PC4/TIM1_CH4, 30 PC5/SPI_SCK, 31 Vssio_2, 32 Vddio_2, 33 PC6/SPI_MOSI, 34 PC7/SPI_MISO, 35 CAN_TX, 36 CAN_RX, 37 PE3/TIM1_BKIN, 38 PE2/I2C_SDA, 39 PE1/I2C_SCL, 40 PE0/CLK_CCO, 41 PD0/TIM3_CH2, 42 PD1/SWIM, 43 PD2/TIM3_CH2, 44 PD3/TIM2_CH2/ADC_ETR, 45 PD4/TIM2_CH1/BEEP, 46 PD5/LINUART_TX, 47 PD6/LINUART_RX, 48 PD7/TLI

## STM32F103C8T6
designator DD?
Микроконтроллер; Value: STM32F103C8T6
pins: 1 VBAT, 2 PC13-TAMPERRTC, 3 PC14-OSC32_IN, 4 PC15-OSC32_OUT, 5 PD0-OSC_IN, 6 PD1-OSC_OUT, 7 NRST, 8 VSSA, 9 VDDA, 10 PA0-WKUP, 11 PA1, 12 PA2, 13 PA3, 14 PA4, 15 PA5, 16 PA6, 17 PA7, 18 PB0, 19 PB1, 20 PB2, 21 PB10, 22 PB11, 23 VSS_1, 24 VDD_1, 25 PB12, 26 PB13, 27 PB14, 28 PB15, 29 PA8, 30 PA9, 31 PA10, 32 PA11, 33 PA12, 34 PA13, 35 VSS_2, 36 VDD_2, 37 PA14, 38 PA15, 39 PB3, 40 PB4, 41 PB5, 42 PB6, 43 PB7, 44 BOOT0, 45 PB8, 46 PB9, 47 VSS_3, 48 VDD_3

## STM32F103RBT6
designator DD?
Микроконтроллер; Value: STM32F103RBT6
pins: 1 VBAT, 2 PC13, 3 PC14, 4 PC15, 5 OSC_IN (PD0), 6 OSC_OUT (PD1), 7 NRST, 8 PC0, 9 PC1, 10 PC2, 11 PC3, 12 VSSA, 13 VDDA, 14 PA0, 15 PA1, 16 PA2, 17 PA3, 18 VSS_4, 19 VDD_4, 20 PA4, 21 PA5, 22 PA6, 23 PA7, 24 PC4, 25 PC5, 26 PB0, 27 PB1, 28 (BOOT1) PB2, 29 PB10, 30 PB11, 31 VSS_1, 32 VDD_1, 33 PB12, 34 PB13, 35 PB14, 36 PB15, 37 PC6, 38 PC7, 39 PC8, 40 PC9, 41 PA8 , 42 PA9, 43 PA10, 44 PA11, 45 PA12, 46 SWDIO, 47 VSS_2, 48 VDD_2, 49 SWCLK, 50 PA15, 51 PC10, 52 PC11, 53 PC12, 54 PD2, 55 PB3, 56 PB4, 57 PB5, 58 PB6, 59 PB7, 60 BOOT0, 61 PB8, 62 PB9, 63 VSS_3, 64 VDD_3

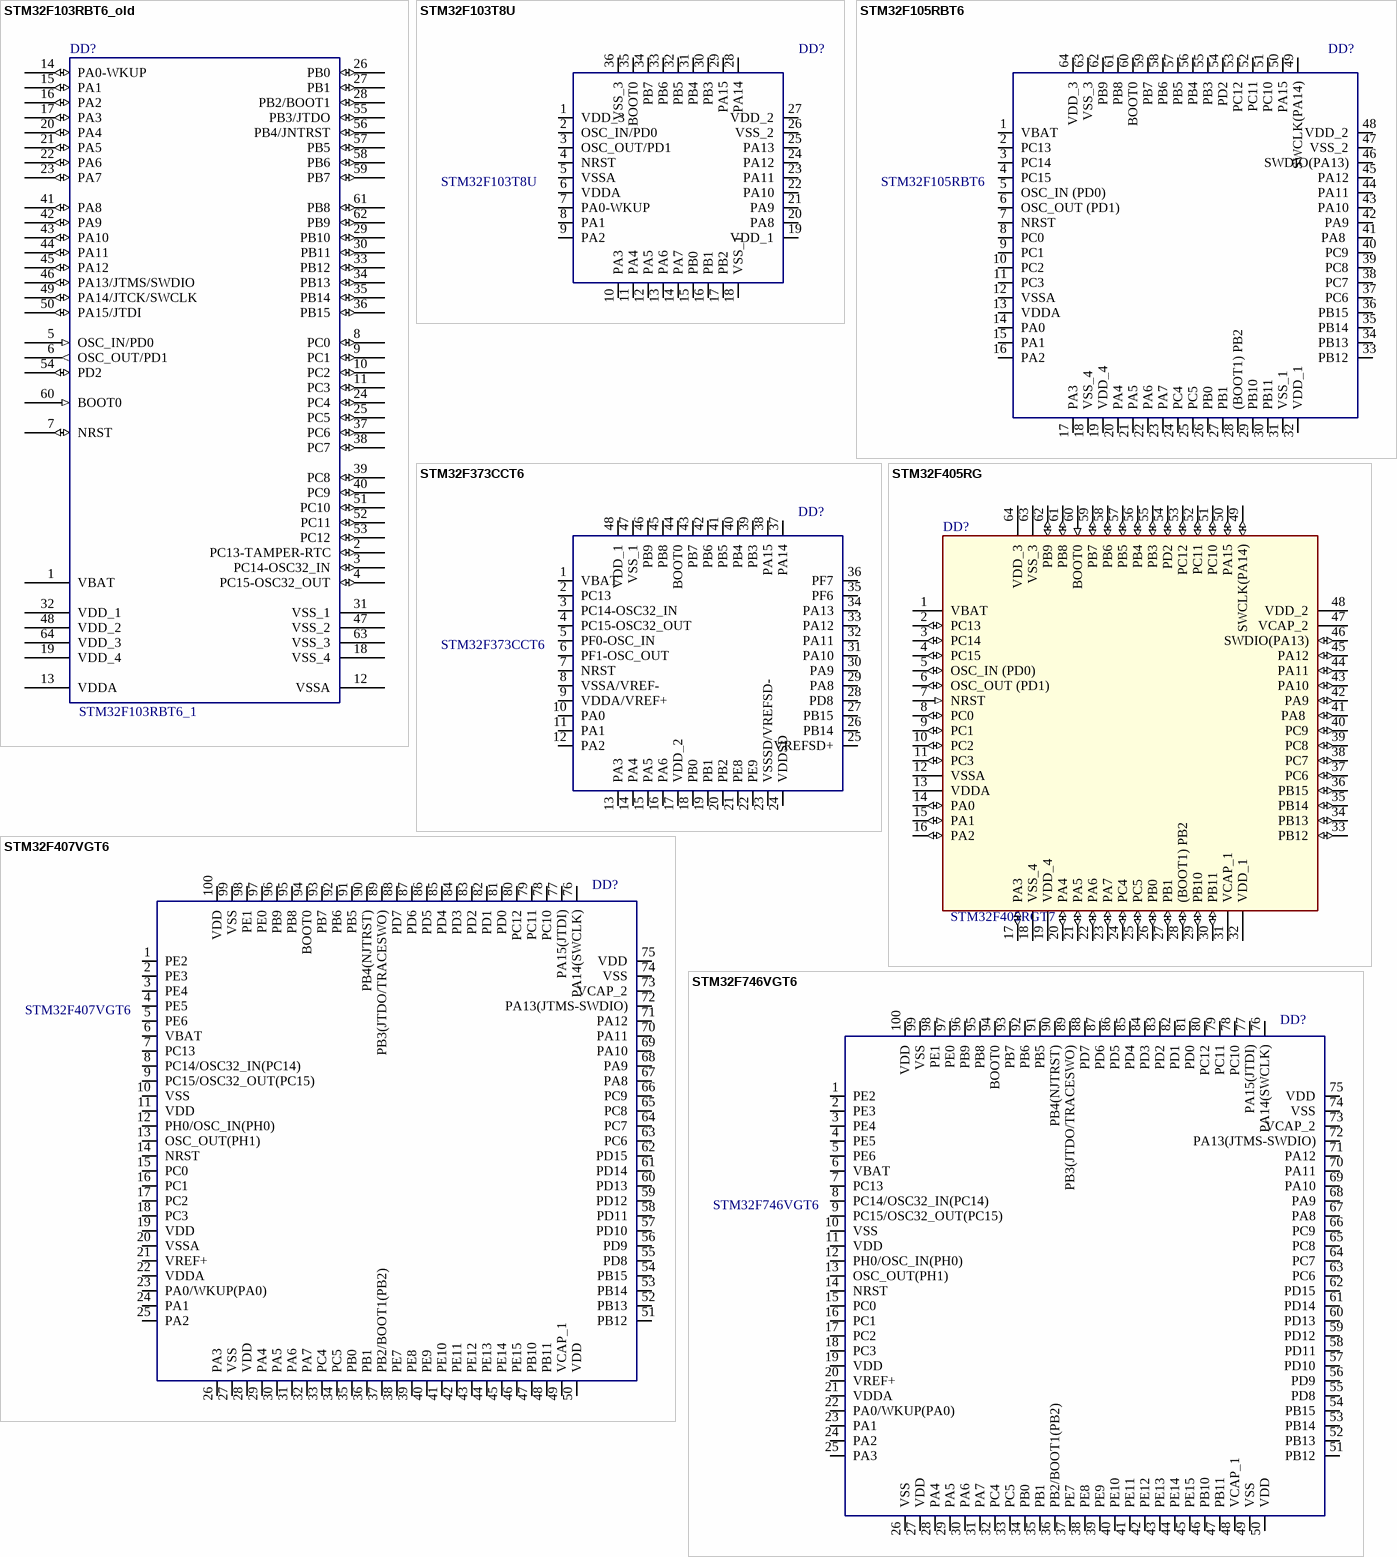
[diagram p38: symbols STM32F103RBT6_old to STM32F746VGT6]

## STM32F103RBT6_old
designator DD?, comment STM32F103RBT6_1
ARM Cortex M3 микроконтроллер; Value: STM32F103RBT6_1
pins: 1 VBAT (power), 2 PC13-TAMPER-RTC (io), 3 PC14-OSC32_IN (io), 4 PC15-OSC32_OUT (io), 5 OSC_IN/PD0 (in), 6 OSC_OUT/PD1 (out), 7 NRST (io), 8 PC0 (io), 9 PC1 (io), 10 PC2 (io), 11 PC3 (io), 12 VSSA (power), 13 VDDA (power), 14 PA0-WKUP (io), 15 PA1 (io), 16 PA2 (io), 17 PA3 (io), 18 VSS_4 (power), 19 VDD_4 (power), 20 PA4 (io), 21 PA5 (io), 22 PA6 (io), 23 PA7 (io), 24 PC4 (io), 25 PC5 (io), 26 PB0 (io), 27 PB1 (io), 28 PB2/BOOT1 (io), 29 PB10 (io), 30 PB11 (io), 31 VSS_1 (power), 32 VDD_1 (power), 33 PB12 (io), 34 PB13 (io), 35 PB14 (io), 36 PB15 (io), 37 PC6 (io), 38 PC7 (io), 39 PC8 (io), 40 PC9 (io), 41 PA8 (io), 42 PA9 (io), 43 PA10 (io), 44 PA11 (io), 45 PA12 (io), 46 PA13/JTMS/SWDIO (io), 47 VSS_2 (power), 48 VDD_2 (power), 49 PA14/JTCK/SWCLK (io), 50 PA15/JTDI (io), 51 PC10 (io), 52 PC11 (io), 53 PC12 (io), 54 PD2 (io), 55 PB3/JTDO (io), 56 PB4/JNTRST (io), 57 PB5 (io), 58 PB6 (io), 59 PB7 (io), 60 BOOT0 (in), 61 PB8 (io), 62 PB9 (io), 63 VSS_3 (power), 64 VDD_3 (power)

## STM32F103T8U
designator DD?
Микроконтроллер; Value: STM32F103T8U
pins: 1 VDD_3, 2 OSC_IN/PD0, 3 OSC_OUT/PD1, 4 NRST, 5 VSSA, 6 VDDA, 7 PA0-WKUP, 8 PA1, 9 PA2, 10 PA3, 11 PA4, 12 PA5, 13 PA6, 14 PA7, 15 PB0, 16 PB1, 17 PB2, 18 VSS_1, 19 VDD_1, 20 PA8, 21 PA9, 22 PA10, 23 PA11, 24 PA12, 25 PA13, 26 VSS_2, 27 VDD_2, 28 PA14, 29 PA15, 30 PB3, 31 PB4, 32 PB5, 33 PB6, 34 PB7, 35 BOOT0, 36 VSS_3

## STM32F105RBT6
designator DD?
Микроконтроллер; Value: STM32F105RBT6
pins: 1 VBAT, 2 PC13, 3 PC14, 4 PC15, 5 OSC_IN (PD0), 6 OSC_OUT (PD1), 7 NRST, 8 PC0, 9 PC1, 10 PC2, 11 PC3, 12 VSSA, 13 VDDA, 14 PA0, 15 PA1, 16 PA2, 17 PA3, 18 VSS_4, 19 VDD_4, 20 PA4, 21 PA5, 22 PA6, 23 PA7, 24 PC4, 25 PC5, 26 PB0, 27 PB1, 28 (BOOT1) PB2, 29 PB10, 30 PB11, 31 VSS_1, 32 VDD_1, 33 PB12, 34 PB13, 35 PB14, 36 PB15, 37 PC6, 38 PC7, 39 PC8, 40 PC9, 41 PA8 , 42 PA9, 43 PA10, 44 PA11, 45 PA12, 46 SWDIO(PA13), 47 VSS_2, 48 VDD_2, 49 SWCLK(PA14), 50 PA15, 51 PC10, 52 PC11, 53 PC12, 54 PD2, 55 PB3, 56 PB4, 57 PB5, 58 PB6, 59 PB7, 60 BOOT0, 61 PB8, 62 PB9, 63 VSS_3, 64 VDD_3

## STM32F373CCT6
designator DD?
Микроконтроллер; Value: STM32F373CCT6
pins: 1 VBAT, 2 PC13, 3 PC14-OSC32_IN, 4 PC15-OSC32_OUT, 5 PF0-OSC_IN, 6 PF1-OSC_OUT, 7 NRST, 8 VSSA/VREF-, 9 VDDA/VREF+, 10 PA0, 11 PA1, 12 PA2, 13 PA3, 14 PA4, 15 PA5, 16 PA6, 17 VDD_2, 18 PB0, 19 PB1, 20 PB2, 21 PE8, 22 PE9, 23 VSSSD/VREFSD-, 24 VDDSD, 25 VREFSD+, 26 PB14, 27 PB15, 28 PD8, 29 PA8, 30 PA9, 31 PA10, 32 PA11, 33 PA12, 34 PA13, 35 PF6, 36 PF7, 37 PA14, 38 PA15, 39 PB3, 40 PB4, 41 PB5, 42 PB6, 43 PB7, 44 BOOT0, 45 PB8, 46 PB9, 47 VSS_1, 48 VDD_1

## STM32F405RG
designator DD?, comment STM32F405RGT7
Микроконтроллер; Value: STM32F405RGT7
pins: 1 VBAT (power), 2 PC13 (io), 3 PC14 (io), 4 PC15 (io), 5 OSC_IN (PD0) (io), 6 OSC_OUT (PD1) (io), 7 NRST (in), 8 PC0 (io), 9 PC1 (io), 10 PC2 (io), 11 PC3 (io), 12 VSSA (power), 13 VDDA (power), 14 PA0 (io), 15 PA1 (io), 16 PA2 (io), 17 PA3 (io), 18 VSS_4 (power), 19 VDD_4 (power), 20 PA4 (io), 21 PA5 (io), 22 PA6 (io), 23 PA7 (io), 24 PC4 (io), 25 PC5 (io), 26 PB0 (io), 27 PB1 (io), 28 (BOOT1) PB2 (io), 29 PB10 (io), 30 PB11 (io), 31 VCAP_1, 32 VDD_1 (power), 33 PB12 (io), 34 PB13 (io), 35 PB14 (io), 36 PB15 (io), 37 PC6 (io), 38 PC7 (io), 39 PC8 (io), 40 PC9 (io), 41 PA8  (io), 42 PA9 (io), 43 PA10 (io), 44 PA11 (io), 45 PA12 (io), 46 SWDIO(PA13) (io), 47 VCAP_2, 48 VDD_2 (power), 49 SWCLK(PA14) (io), 50 PA15 (io), 51 PC10 (io), 52 PC11 (io), 53 PC12 (io), 54 PD2 (io), 55 PB3 (io), 56 PB4 (io), 57 PB5 (io), 58 PB6 (io), 59 PB7 (io), 60 BOOT0 (in), 61 PB8 (io), 62 PB9 (io), 63 VSS_3 (power), 64 VDD_3 (power)

## STM32F407VGT6
designator DD?
Микроконтроллер; Value: STM32F407VGT6
pins: 1 PE2, 2 PE3, 3 PE4, 4 PE5, 5 PE6, 6 VBAT, 7 PC13, 8 PC14/OSC32_IN(PC14), 9 PC15/OSC32_OUT(PC15), 10 VSS, 11 VDD, 12 PH0/OSC_IN(PH0), 13 OSC_OUT(PH1), 14 NRST, 15 PC0, 16 PC1, 17 PC2, 18 PC3, 19 VDD, 20 VSSA, 21 VREF+, 22 VDDA, 23 PA0/WKUP(PA0), 24 PA1, 25 PA2, 26 PA3, 27 VSS, 28 VDD, 29 PA4, 30 PA5, 31 PA6, 32 PA7, 33 PC4, 34 PC5, 35 PB0, 36 PB1, 37 PB2/BOOT1(PB2), 38 PE7, 39 PE8, 40 PE9, 41 PE10, 42 PE11, 43 PE12, 44 PE13, 45 PE14, 46 PE15, 47 PB10, 48 PB11, 49 VCAP_1, 50 VDD, 51 PB12, 52 PB13, 53 PB14, 54 PB15, 55 PD8, 56 PD9, 57 PD10, 58 PD11, 59 PD12, 60 PD13, 61 PD14, 62 PD15, 63 PC6, 64 PC7, 65 PC8, 66 PC9, 67 PA8, 68 PA9, 69 PA10, 70 PA11, 71 PA12, 72 PA13(JTMS-SWDIO), 73 VCAP_2, 74 VSS, 75 VDD, 76 PA14(SWCLK), 77 PA15(JTDI), 78 PC10, 79 PC11, 80 PC12, 81 PD0, 82 PD1, 83 PD2, 84 PD3, 85 PD4, 86 PD5, 87 PD6, 88 PD7, 89 PB3(JTDO/TRACESWO), 90 PB4(NJTRST), 91 PB5, 92 PB6, 93 PB7, 94 BOOT0, 95 PB8, 96 PB9, 97 PE0, 98 PE1, 99 VSS, 100 VDD

## STM32F746VGT6
designator DD?
Микроконтроллер; Value: STM32F746VGT6
pins: 1 PE2, 2 PE3, 3 PE4, 4 PE5, 5 PE6, 6 VBAT, 7 PC13, 8 PC14/OSC32_IN(PC14), 9 PC15/OSC32_OUT(PC15), 10 VSS, 11 VDD, 12 PH0/OSC_IN(PH0), 13 OSC_OUT(PH1), 14 NRST, 15 PC0, 16 PC1, 17 PC2, 18 PC3, 19 VDD, 20 VREF+, 21 VDDA, 22 PA0/WKUP(PA0), 23 PA1, 24 PA2, 25 PA3, 26 VSS, 27 VDD, 28 PA4, 29 PA5, 30 PA6, 31 PA7, 32 PC4, 33 PC5, 34 PB0, 35 PB1, 36 PB2/BOOT1(PB2), 37 PE7, 38 PE8, 39 PE9, 40 PE10, 41 PE11, 42 PE12, 43 PE13, 44 PE14, 45 PE15, 46 PB10, 47 PB11, 48 VCAP_1, 49 VSS, 50 VDD, 51 PB12, 52 PB13, 53 PB14, 54 PB15, 55 PD8, 56 PD9, 57 PD10, 58 PD11, 59 PD12, 60 PD13, 61 PD14, 62 PD15, 63 PC6, 64 PC7, 65 PC8, 66 PC9, 67 PA8, 68 PA9, 69 PA10, 70 PA11, 71 PA12, 72 PA13(JTMS-SWDIO), 73 VCAP_2, 74 VSS, 75 VDD, 76 PA14(SWCLK), 77 PA15(JTDI), 78 PC10, 79 PC11, 80 PC12, 81 PD0, 82 PD1, 83 PD2, 84 PD3, 85 PD4, 86 PD5, 87 PD6, 88 PD7, 89 PB3(JTDO/TRACESWO), 90 PB4(NJTRST), 91 PB5, 92 PB6, 93 PB7, 94 BOOT0, 95 PB8, 96 PB9, 97 PE0, 98 PE1, 99 VSS, 100 VDD

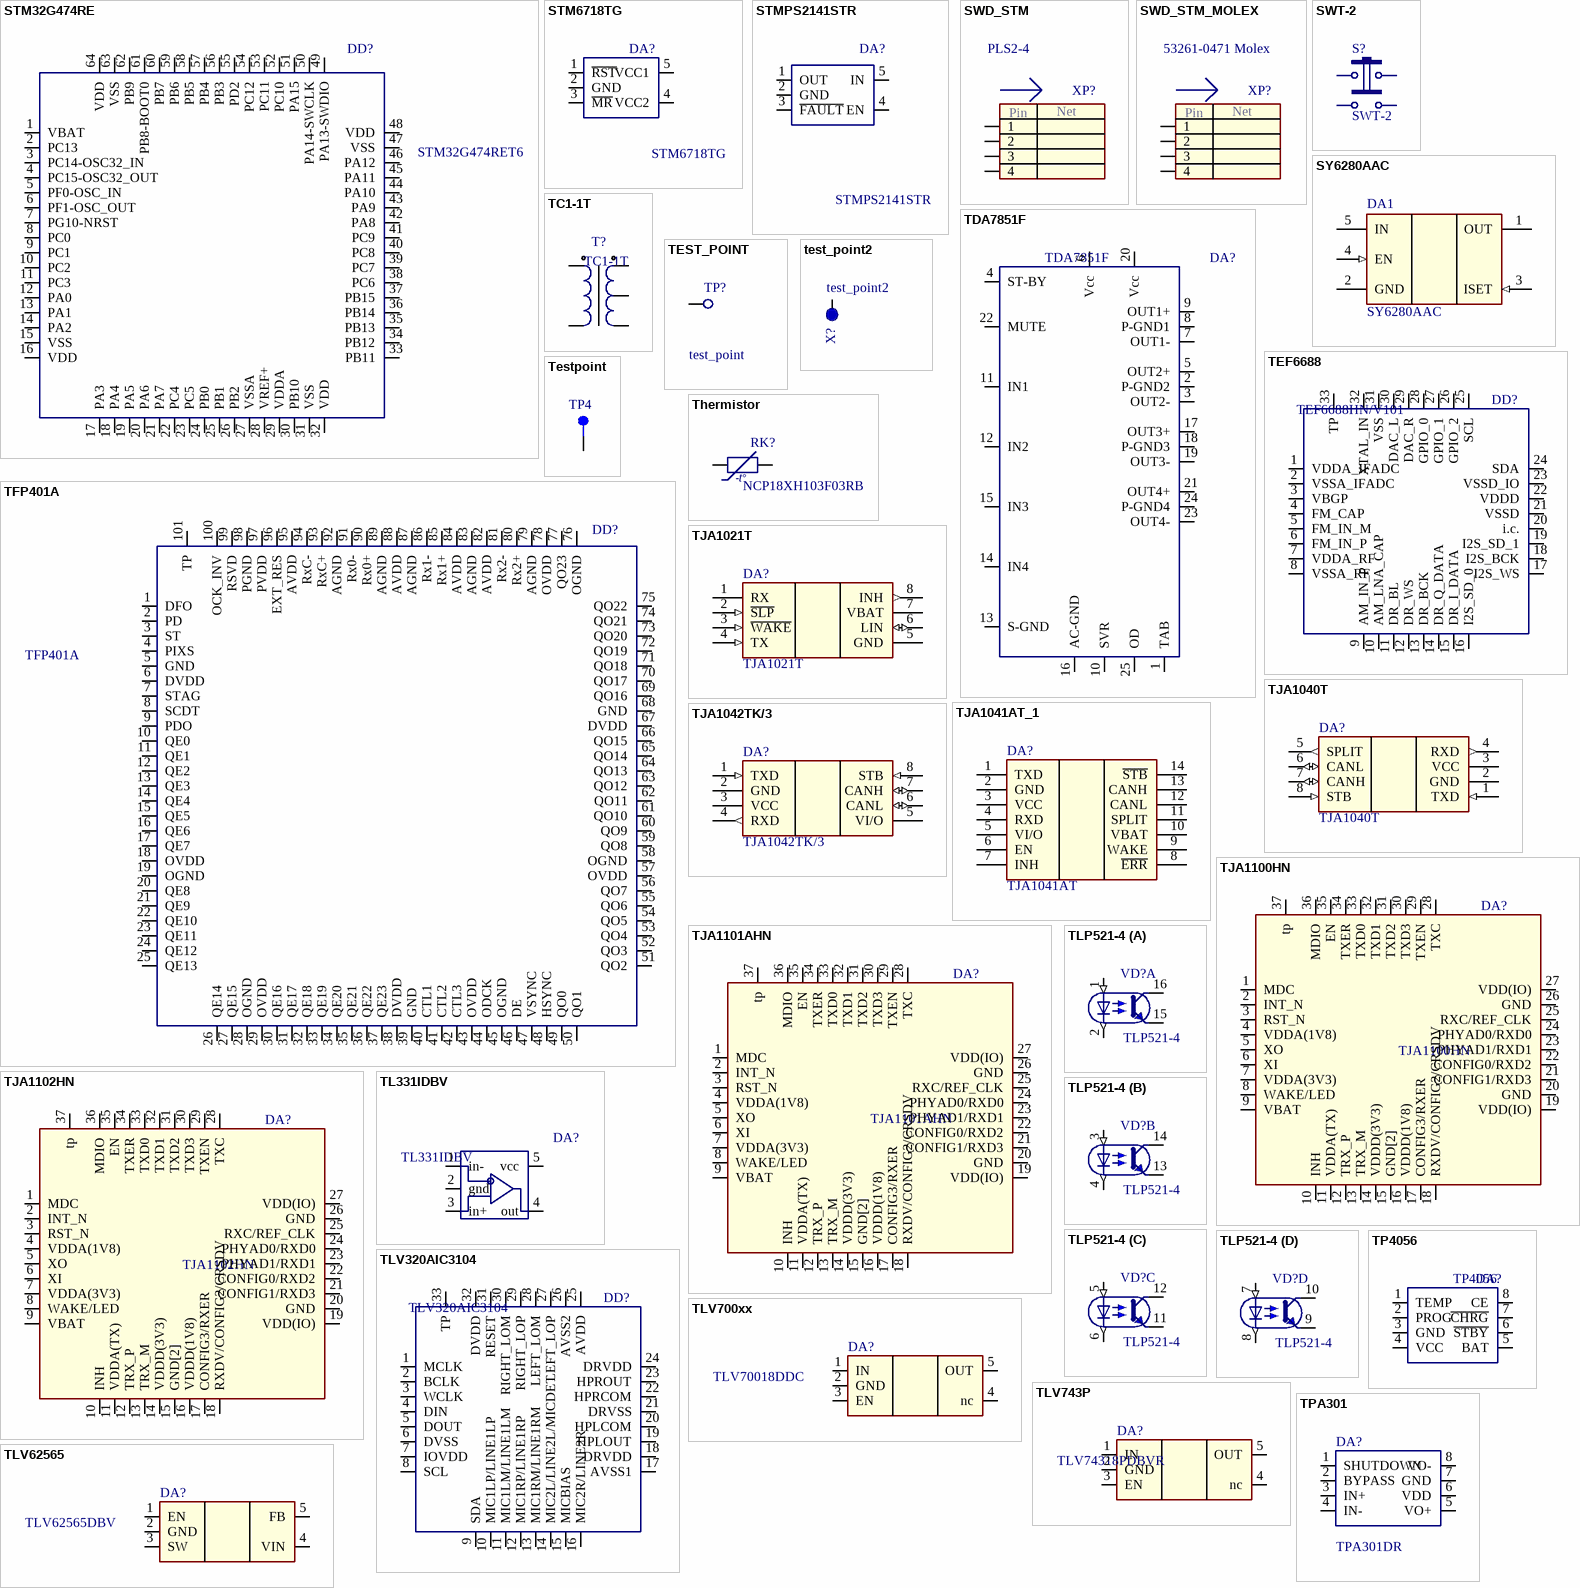
[diagram p39: symbols STM32G474RE to TPA301]

## STM32G474RE
designator DD?, comment STM32G474RET6
No Description Available; Value: STM32G474RET6
footprint LQFP64-10x10mm
pins: 1 VBAT, 2 PC13, 3 PC14-OSC32_IN, 4 PC15-OSC32_OUT, 5 PF0-OSC_IN, 6 PF1-OSC_OUT, 7 PG10-NRST, 8 PC0, 9 PC1, 10 PC2, 11 PC3, 12 PA0, 13 PA1, 14 PA2, 15 VSS, 16 VDD, 17 PA3, 18 PA4, 19 PA5, 20 PA6, 21 PA7, 22 PC4, 23 PC5, 24 PB0, 25 PB1, 26 PB2, 27 VSSA, 28 VREF+, 29 VDDA, 30 PB10, 31 VSS, 32 VDD, 33 PB11, 34 PB12, 35 PB13, 36 PB14, 37 PB15, 38 PC6, 39 PC7, 40 PC8, 41 PC9, 42 PA8, 43 PA9, 44 PA10, 45 PA11, 46 PA12, 47 VSS, 48 VDD, 49 PA13-SWDIO, 50 PA14-SWCLK, 51 PA15, 52 PC10, 53 PC11, 54 PC12, 55 PD2, 56 PB3, 57 PB4, 58 PB5, 59 PB6, 60 PB7, 61 PB8-BOOT0, 62 PB9, 63 VSS, 64 VDD

## STM6718TG
designator DA?
Value: STM6718TG
pins: 1 ~{RST}, 2 GND, 3 ~{MR}, 4 VCC2, 5 VCC1

## STMPS2141STR
designator DA?
Enhanced single channel power switches; Value: STMPS2141STR
pins: 1 OUT (power), 2 GND, 3 ~{FAULT}, 4 EN (power), 5 IN

## SWD_STM
designator XP?, comment PLS2-4
PLS2-4 Вилка на плату, шаг 2мм; Value: PLS2-4
pins: 1, 2, 3, 4
text: Pin; Net

## SWD_STM_MOLEX
designator XP?, comment 53261-0471 Molex
53261-0471 Molex Вилка на плату угловая, шаг 1.25мм; Value: 53261-0471 Molex
pins: 0 hidden to GND, 1, 2, 3, 4
text: Pin; Net

## SWT-2
designator S?
Кнопка тактовая; Value: SWT-2
pins: 1, 2, 3, 4

## SY6280AAC
designator DA1
Low Loss Power Distribution Switch; Manufacturer: Silergy Corp.; Unique Id: IC-0142; Author: Sukhovey; Case: SOT-23-5; Category: Switch; ComponentLink1Description: Datasheet; ComponentLink1URL: https://datasheet.lcsc.com/lcsc/1810121532_Silergy-Corp-SY6280AAC_C55136.pdf; Manufacturer Part Number: SY6280AAC; Temperature: -40°C to 85°C; Termination style: SMD; Value: SY6280AAC; Status: Draft; Type: ICs
footprint SOT95P280X145-5N
footprint SOT95P280X145-5M
footprint SOT95P280X145-5L
pins: 1 OUT (power), 2 GND (power), 3 ISET (in), 4 EN (in), 5 IN (power)

## TC1-1T
designator T?
RF Transformer, 1:1, MINI-CIRCUITS; Value: TC1-1T
pins: 1, 2, 3, 4, 6

## TDA7851F
designator DA?
4 x 48 W MOSFET quad bridge power amplifier; Value: TDA7851F
pins: 1 TAB, 2 P-GND2 (power), 3 OUT2-, 4 ST-BY, 5 OUT2+ (power), 6 Vcc, 7 OUT1-, 8 P-GND1 (power), 9 OUT1+ (power), 10 SVR (power), 11 IN1 (power), 12 IN2 (power), 13 S-GND (power), 14 IN4 (power), 15 IN3 (power), 16 AC-GND (power), 17 OUT3+ (power), 18 P-GND3 (power), 19 OUT3- (power), 20 Vcc (power), 21 OUT4+ (power), 22 MUTE (power), 23 OUT4- (power), 24 P-GND4 (power), 25 OD (power)

## TEF6688
designator DD?, comment TEF6688HN/V101
Low IF tuner high performance one-chip; Value: TEF6688HN/V101
pins: 1 VDDA_IFADC, 2 VSSA_IFADC, 3 VBGP, 4 FM_CAP, 5 FM_IN_M, 6 FM_IN_P (power), 7 VDDA_RF (power), 8 VSSA_RF, 9 AM_IN_P, 10 AM_LNA_CAP, 11 DR_BL, 12 DR_WS, 13 DR_BCK, 14 DR_Q_DATA (power), 15 DR_I_DATA (power), 16 I2S_SD_0 (power), 17 I2S_WS (power), 18 I2S_BCK, 19 I2S_SD_1, 20 i.c., 21 VSSD (power), 22 VDDD (power), 23 VSSD_IO, 24 SDA, 25 SCL, 26 GPIO_2, 27 GPIO_1, 28 GPIO_0, 29 DAC_R, 30 DAC_L (power), 31 VSS (power), 32 XTAL_IN, 33 TP

## TEST_POINT
designator TP?, comment test_point  (no BOM)
Value: test_point
pins: 1

## test_point2
designator X?
footprint Pin
pins: 1

## Testpoint
designator TP4  (no BOM)
Assembly Testpoint PAD 1.3mm; Unique Id: EM-0002; Case: SMD-1; Category: Testpoint; Termination style: SMD; Status: Draft; Type: Electro Mechanicals
footprint TP_ASSY_PAD_13
pins: 1

## TFP401A
designator DD?
TFP401A TI Panelbus Digital Receiver; Value: TFP401A
pins: 1 DFO, 2 PD, 3 ST, 4 PIXS, 5 GND, 6 DVDD, 7 STAG, 8 SCDT, 9 PDO, 10 QE0, 11 QE1, 12 QE2, 13 QE3, 14 QE4, 15 QE5, 16 QE6, 17 QE7, 18 OVDD, 19 OGND, 20 QE8, 21 QE9, 22 QE10, 23 QE11, 24 QE12, 25 QE13, 26 QE14, 27 QE15, 28 OGND, 29 OVDD, 30 QE16, 31 QE17, 32 QE18, 33 QE19, 34 QE20, 35 QE21, 36 QE22, 37 QE23, 38 DVDD, 39 GND, 40 CTL1, 41 CTL2, 42 CTL3, 43 OVDD, 44 ODCK, 45 OGND, 46 DE, 47 VSYNC, 48 HSYNC, 49 QO0, 50 QO1, 51 QO2, 52 QO3, 53 QO4, 54 QO5, 55 QO6, 56 QO7, 57 OVDD, 58 OGND, 59 QO8, 60 QO9, 61 QO10, 62 QO11, 63 QO12, 64 QO13, 65 QO14, 66 QO15, 67 DVDD, 68 GND, 69 QO16, 70 QO17, 71 QO18, 72 QO19, 73 QO20, 74 QO21, 75 QO22, 76 OGND, 77 QO23, 78 OVDD, 79 AGND, 80 Rx2+, 81 Rx2-, 82 AVDD, 83 AGND, 84 AVDD, 85 Rx1+, 86 Rx1-, 87 AGND, 88 AVDD, 89 AGND, 90 Rx0+, 91 Rx0-, 92 AGND, 93 RxC+, 94 RxC-, 95 AVDD, 96 EXT_RES, 97 PVDD, 98 PGND, 99 RSVD, 100 OCK_INV, 101 TP

## Thermistor
designator RK?, comment NCP18XH103F03RB
Varistor; Value: NCP18XH103F03RB
pins: 1, 2
text: -t°

## TJA1021T
designator DA?
м/сх; Value: TJA1021T
footprint SOIC8-150_N (SOIC, 8-Leads, Body 4.9x3.8mm, Pitch 1.27mm, IPC Medium Density)
pins: 1 RX (oc), 2 ~{SLP} (in), 3 ~{WAKE} (in), 4 TX (in), 5 GND (power), 6 LIN (io), 7 VBAT (power), 8 INH (out)

## TJA1040T
designator DA?
Микросхема; Value: TJA1040T
pins: 1 TXD (in), 2 GND (power), 3 VCC (power), 4 RXD (out), 5 SPLIT (out), 6 CANL (io), 7 CANH (io), 8 STB (in)

## TJA1041AT_1
designator DA?, comment TJA1041AT
HIGH-VOLTAGE, High-speed CAN transceiver; Value: TJA1041AT
pins: 1 TXD, 2 GND, 3 VCC, 4 RXD, 5 VI/O, 6 EN, 7 INH, 8 ~{ERR}, 9 WAKE, 10 VBAT, 11 SPLIT, 12 CANL, 13 CANH, 14 ~{STB}

## TJA1042TK/3
designator DA?
HIGH-VOLTAGE, High-speed CAN transceiver; Value: TJA1042TK/3
pins: 1 TXD (in), 2 GND (power), 3 VCC (power), 4 RXD (out), 5 VI/O (power), 6 CANL (io), 7 CANH (io), 8 STB (in)

## TJA1100HN
designator DA?
PHY for Automotive Ethernet; Value: TJA1100HN
pins: 1 MDC, 2 INT_N, 3 RST_N, 4 VDDA(1V8), 5 XO, 6 XI (power), 7 VDDA(3V3) (power), 8 WAKE/LED, 9 VBAT, 10 INH, 11 VDDA(TX), 12 TRX_P, 13 TRX_M, 14 VDDD(3V3) (power), 15 GND[2] (power), 16 VDDD(1V8) (power), 17 CONFIG3/RXER (power), 18 RXDV/CONFIG2/CRSDV, 19 VDD(IO), 20 GND, 21 CONFIG1/RXD3 (power), 22 CONFIG0/RXD2 (power), 23 PHYAD1/RXD1, 24 PHYAD0/RXD0, 25 RXC/REF_CLK, 26 GND, 27 VDD(IO), 28 TXC, 29 TXEN, 30 TXD3 (power), 31 TXD2 (power), 32 TXD1, 33 TXD0, 34 TXER, 35 EN, 36 MDIO, 37 tp

## TJA1101AHN
designator DA?
PHY for Automotive Ethernet; Value: TJA1101AHN
pins: 1 MDC, 2 INT_N, 3 RST_N, 4 VDDA(1V8), 5 XO, 6 XI (power), 7 VDDA(3V3) (power), 8 WAKE/LED, 9 VBAT, 10 INH, 11 VDDA(TX), 12 TRX_P, 13 TRX_M, 14 VDDD(3V3) (power), 15 GND[2] (power), 16 VDDD(1V8) (power), 17 CONFIG3/RXER (power), 18 RXDV/CONFIG2/CRSDV, 19 VDD(IO), 20 GND, 21 CONFIG1/RXD3 (power), 22 CONFIG0/RXD2 (power), 23 PHYAD1/RXD1, 24 PHYAD0/RXD0, 25 RXC/REF_CLK, 26 GND, 27 VDD(IO), 28 TXC, 29 TXEN, 30 TXD3 (power), 31 TXD2 (power), 32 TXD1, 33 TXD0, 34 TXER, 35 EN, 36 MDIO, 37 tp

## TJA1102HN
designator DA?
PHYx2 for Automotive Ethernet; Value: TJA1102HN
pins: 1 MDC, 2 INT_N, 3 RST_N, 4 VDDA(1V8), 5 XO, 6 XI (power), 7 VDDA(3V3) (power), 8 WAKE/LED, 9 VBAT, 10 INH, 11 VDDA(TX), 12 TRX_P, 13 TRX_M, 14 VDDD(3V3) (power), 15 GND[2] (power), 16 VDDD(1V8) (power), 17 CONFIG3/RXER (power), 18 RXDV/CONFIG2/CRSDV, 19 VDD(IO), 20 GND, 21 CONFIG1/RXD3 (power), 22 CONFIG0/RXD2 (power), 23 PHYAD1/RXD1, 24 PHYAD0/RXD0, 25 RXC/REF_CLK, 26 GND, 27 VDD(IO), 28 TXC, 29 TXEN, 30 TXD3 (power), 31 TXD2 (power), 32 TXD1, 33 TXD0, 34 TXER, 35 EN, 36 MDIO, 37 tp

## TL331IDBV
designator DA?
м/сх; Value: TL331IDBV
pins: 1 in- (power), 2 gnd, 3 in+, 4 out, 5 vcc

## TLP521-4
designator VD?
Оптрон; Value: TLP521-4
part A pins: 1 A (in), 2 K (out), 15, 16
part B pins: 3 A (in), 4 K (out), 13, 14
part C pins: 5 A (in), 6 K (out), 11, 12
part D pins: 7 A (in), 8 K (out), 9, 10

## TLV320AIC3104
designator DD?
LOW-POWER STEREO AUDIO CODEC FOR PORTABLE AUDIO/TELEPHONY; Value: TLV320AIC3104
pins: 1 MCLK, 2 BCLK, 3 WCLK, 4 DIN, 5 DOUT, 6 DVSS (power), 7 IOVDD (power), 8 SCL, 9 SDA, 10 MIC1LP/LINE1LP, 11 MIC1LM/LINE1LM, 12 MIC1RP/LINE1RP, 13 MIC1RM/LINE1RM, 14 MIC2L/LINE2L/MICDET (power), 15 MICBIAS (power), 16 MIC2R/LINE2R (power), 17 AVSS1 (power), 18 DRVDD, 19 HPLOUT, 20 HPLCOM, 21 DRVSS (power), 22 HPRCOM (power), 23 HPROUT, 24 DRVDD, 25 AVDD, 26 AVSS2, 27 LEFT_LOP, 28 LEFT_LOM, 29 RIGHT_LOP, 30 RIGHT_LOM (power), 31 RESET (power), 32 DVDD, 33 TP

## TLV700xx
designator DA?, comment TLV70018DDC
200-mA, Low-IQ, Low-Dropout Regulator for Portable Devices; Value: TLV70018DDC
pins: 1 IN, 2 GND, 3 EN, 4 nc, 5 OUT

## TLV743P
designator DA?, comment TLV74318PDBVR
LDO; Value: TLV74318PDBVR
pins: 1 IN (power), 2 GND, 3 EN, 4 nc, 5 OUT

## TLV62565
designator DA?, comment TLV62565DBV
1.5-A High Efficiency Step-Down Converters; Value: TLV62565DBV
pins: 1 EN, 2 GND, 3 SW, 4 VIN, 5 FB

## TP4056
designator DA?
1A Standalone Linear Li-lon Battery Charger; Value: TP4056
pins: 1 TEMP, 2 PROG (power), 3 GND, 4 VCC, 5 BAT (power), 6 ~{STBY}, 7 ~{CHRG}, 8 CE (power)

## TPA301
designator DA?, comment TPA301DR
350-mW MONO AUDIO POWER AMPLIFIER; Value: TPA301DR
pins: 1 SHUTDOWN (power), 2 BYPASS, 3 IN+, 4 IN- (power), 5 VO+ (power), 6 VDD, 7 GND, 8 VO- (power)

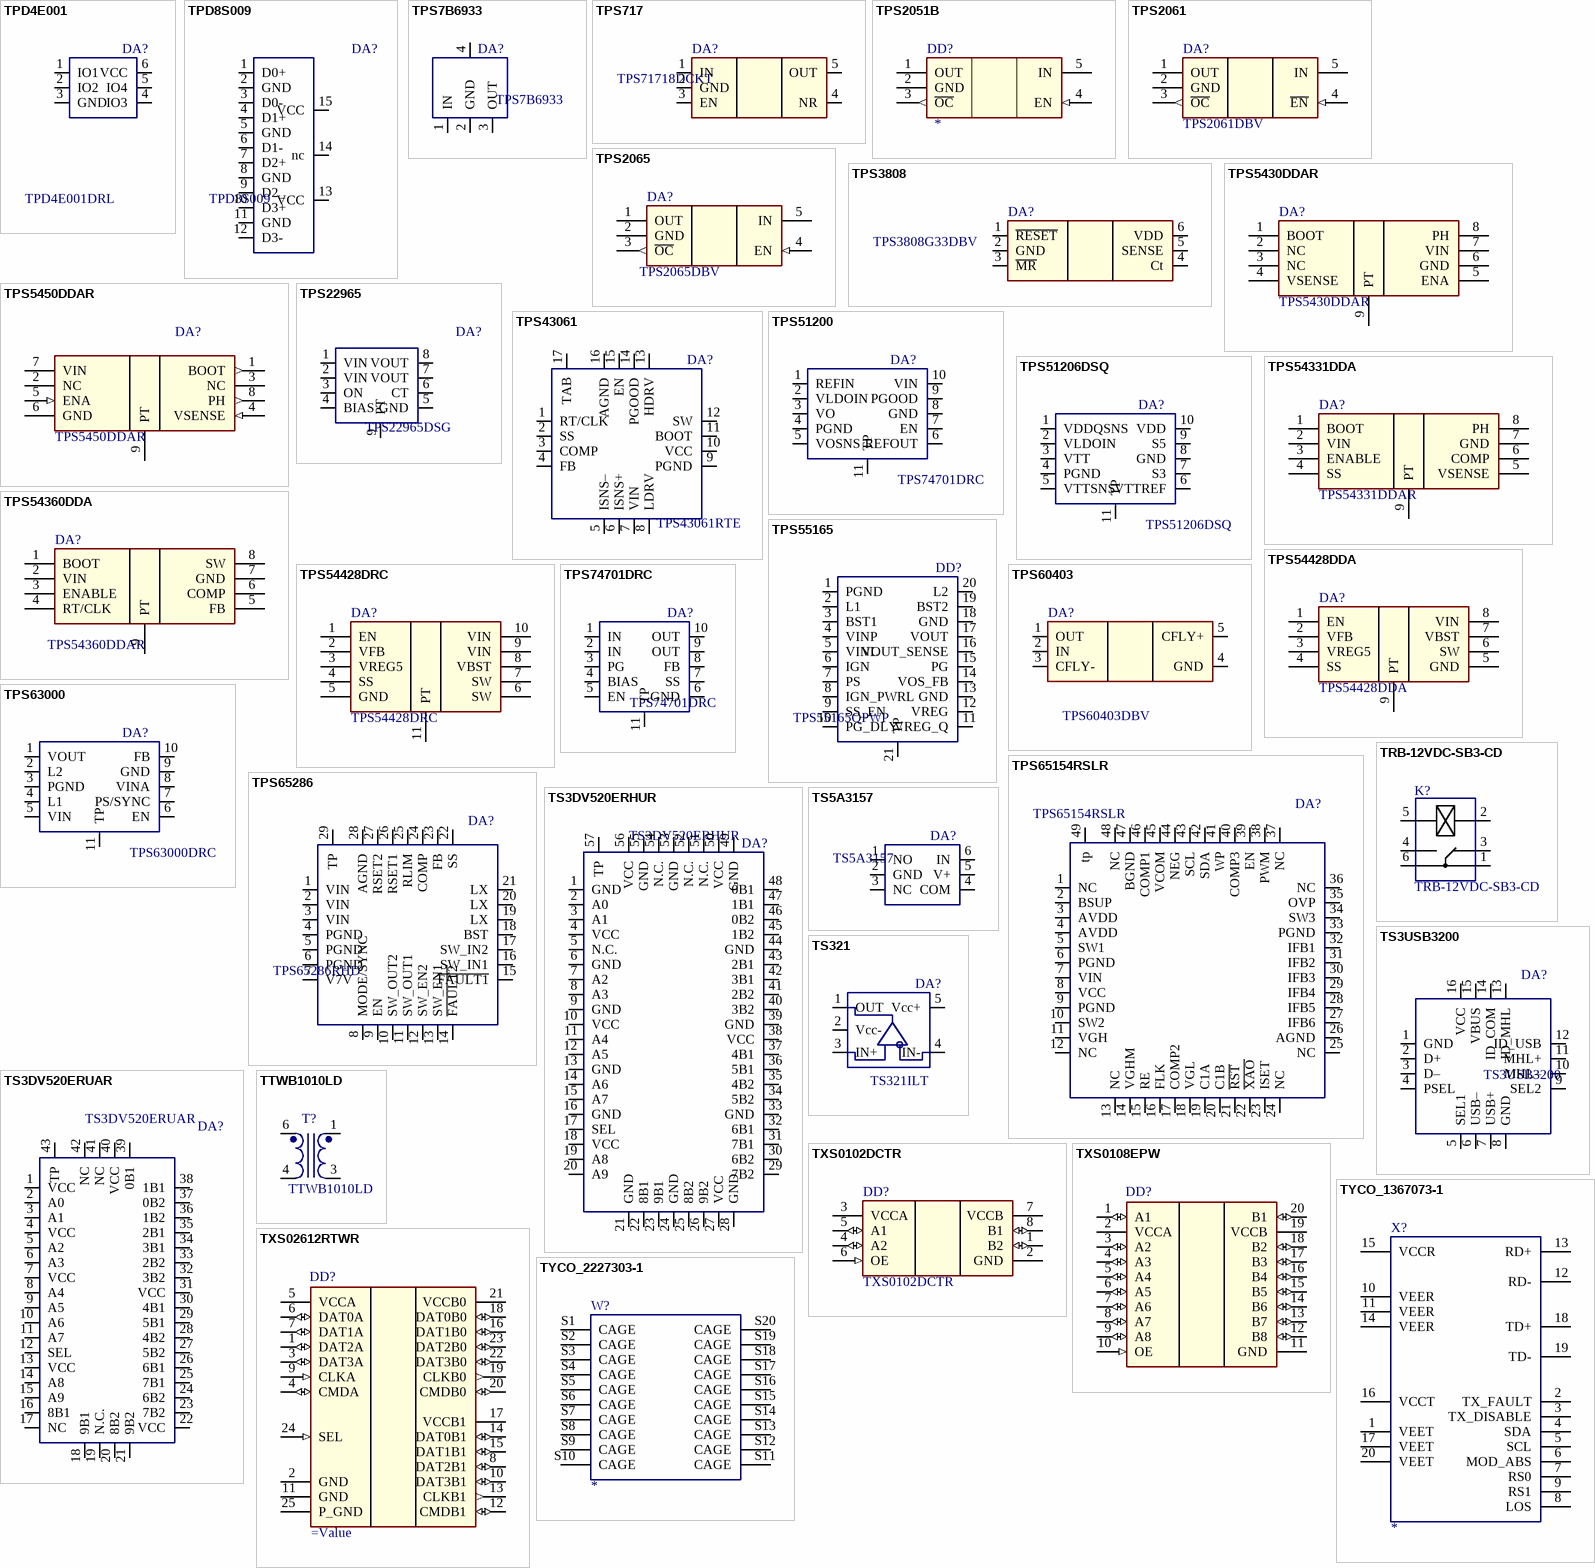
[diagram p40: symbols TPD4E001 to TYCO_2227303-1]

## TPD4E001
designator DA?, comment TPD4E001DRL
Low-Capacitance 4-Channel ESD-Protection for High-Speed Data Interfaces; Value: TPD4E001DRL
pins: 1 IO1, 2 IO2, 3 GND, 4 IO3, 5 IO4, 6 VCC

## TPD8S009
designator DA?
ESD Protection for DisplayPort and HDMI; Value: TPD8S009
pins: 1 D0+, 2 GND, 3 D0-, 4 D1+, 5 GND, 6 D1-, 7 D2+, 8 GND, 9 D2_, 10 D3+, 11 GND, 12 D3-, 13 VCC, 14 nc, 15 VCC

## TPS7B6933
designator DA?
Линейный стабилизатор; Value: TPS7B6933
pins: 1 IN, 2 GND, 3 OUT, 4 GND (power)

## TPS717
designator DA?, comment TPS71718DCKT
TPS71718DCKT SC70-5  Texas; Value: TPS71718DCKT
pins: 1 IN (power), 2 GND, 3 EN, 4 NR, 5 OUT

## TPS2051B
designator DD?
pins: 1 OUT (power), 2 GND (power), 3 ~{OC} (out), 4 EN (in), 5 IN (power)

## TPS2061
designator DA?, comment TPS2061DBV
Programmable-Delay Supervisory Circuit; Value: TPS2061DBV
pins: 1 OUT (power), 2 GND (power), 3 ~{OC} (out), 4 ~{EN} (in), 5 IN (power)

## TPS2065
designator DA?, comment TPS2065DBV
5.5-V, 1-A, 70-mΩ CURRENT-LIMITED, POWER-DISTRIBUTION SWITCHES; Value: TPS2065DBV
pins: 1 OUT (power), 2 GND (power), 3 ~{OC} (out), 4 EN (in), 5 IN (power)

## TPS3808
designator DA?, comment TPS3808G33DBV
CURRENT-LIMITED, POWER-DISTRIBUTION SWITCHES; Value: TPS3808G33DBV
pins: 1 ~{RESET}, 2 GND, 3 ~{MR}, 4 Ct, 5 SENSE, 6 VDD

## TPS5430DDAR
designator DA?
TPS543x 3-A, Wide Input 5.5 V to 36 V, Step-Down Converter; Value: TPS5430DDAR
pins: 1 BOOT (power), 2 NC (power), 3 NC (power), 4 VSENSE, 5 ENA, 6 GND (power), 7 VIN (power), 8 PH (power), 9 PT (power)

## TPS5450DDAR
designator DA?
5A, 36V INPUT, STEP DOWN DC/DC CONVERTER; Value: TPS5450DDAR
pins: 1 BOOT (out), 2 NC, 3 NC, 4 VSENSE (in), 5 ENA (in), 6 GND (power), 7 VIN (power), 8 PH (out), 9 PT (power)

## TPS22965
designator DA?, comment TPS22965DSG
5.5-V, 4-A, 16-mΩ On-Resistance Load Switch; Value: TPS22965DSG
pins: 1 VIN (power), 2 VIN (power), 3 ON (power), 4 BIAS, 5 GND, 6 CT (power), 7 VOUT (power), 8 VOUT (power), 9 PT (power)

## TPS43061
designator DA?, comment TPS43061RTE
Low Quiescent Current Synchronous Boost  DC-DC Controller; Value: TPS43061RTE
pins: 1 RT/CLK (power), 2 SS (power), 3 COMP (power), 4 FB, 5 ISNS–, 6 ISNS+ (power), 7 VIN (power), 8 LDRV (power), 9 PGND (power), 10 VCC (power), 11 BOOT (power), 12 SW (power), 13 HDRV (power), 14 PGOOD (power), 15 EN (power), 16 AGND (power), 17 TAB (power)

## TPS51200
designator DA?, comment TPS74701DRC
Sink and Source DDR Termination Regulator; Value: TPS74701DRC
pins: 1 REFIN, 2 VLDOIN, 3 VO, 4 PGND, 5 VOSNS, 6 REFOUT, 7 EN, 8 GND, 9 PGOOD, 10 VIN, 11 TP

## TPS51206DSQ
designator DA?
Sink and Source DDR Termination Regulator; Value: TPS51206DSQ
pins: 1 VDDQSNS, 2 VLDOIN, 3 VTT, 4 PGND, 5 VTTSNS, 6 VTTREF, 7 S3, 8 GND, 9 S5, 10 VDD, 11 TP

## TPS54331DDA
designator DA?, comment TPS54331DDAR
3A, 28V INPUT, STEP DOWN DC/DC CONVERTER WITH ECO-MODE; Value: TPS54331DDAR
pins: 1 BOOT (power), 2 VIN (power), 3 ENABLE (power), 4 SS, 5 VSENSE, 6 COMP (power), 7 GND (power), 8 PH (power), 9 PT (power)

## TPS54360DDA
designator DA?, comment TPS54360DDAR
Микросхема; Value: TPS54360DDAR
footprint SO8_PAD
pins: 1 BOOT (power), 2 VIN (power), 3 ENABLE (power), 4 RT/CLK, 5 FB, 6 COMP (power), 7 GND (power), 8 SW (power), 9 PT (power)

## TPS54428DDA
designator DA?
4.5-V to 18-V Input, 4-A Synchronous Step-Down Converter With Eco-Mode; Value: TPS54428DDA
pins: 1 EN, 2 VFB, 3 VREG5, 4 SS, 5 GND, 6 SW, 7 VBST, 8 VIN, 9 PT (power)

## TPS54428DRC
designator DA?
4.5-V to 18-V Input, 4-A Synchronous Step-Down Converter With Eco-Mode; Value: TPS54428DRC
pins: 1 EN, 2 VFB, 3 VREG5, 4 SS, 5 GND, 6 SW, 7 SW, 8 VBST, 9 VIN, 10 VIN, 11 PT

## TPS55165
designator DD?, comment TPS55165QPWP
36-V, 1-A Output, 2-MHz, Single Inductor, Synchronous buck-boost Voltage Regulator; Value: TPS55165QPWP
pins: 1 PGND, 2 L1, 3 BST1, 4 VINP, 5 VINL, 6 IGN, 7 PS, 8 IGN_PWRL, 9 SS_EN, 10 PG_DLY, 11 VREG_Q, 12 VREG, 13 GND, 14 VOS_FB, 15 PG, 16 VOUT_SENSE, 17 VOUT, 18 GND, 19 BST2, 20 L2, 21 TP

## TPS60403
designator DA?, comment TPS60403DBV
Inverts Input Supply Voltage; Value: TPS60403DBV
pins: 1 OUT (power), 2 IN (power), 3 CFLY-, 4 GND, 5 CFLY+

## TPS63000
designator DA?, comment TPS63000DRC
Sink and Source DDR Termination Regulator; Value: TPS63000DRC
pins: 1 VOUT, 2 L2, 3 PGND, 4 L1, 5 VIN, 6 EN, 7 PS/SYNC, 8 VINA, 9 GND, 10 FB, 11 TP

## TPS65154RSLR
designator DA?
LCD Bias IC with Integrated WLED Driver; Value: TPS65154RSLR
pins: 1 NC, 2 BSUP, 3 AVDD, 4 AVDD, 5 SW1, 6 PGND (power), 7 VIN (power), 8 VCC, 9 PGND, 10 SW2, 11 VGH, 12 NC, 13 NC, 14 VGHM (power), 15 RE (power), 16 FLK (power), 17 COMP2 (power), 18 VGL, 19 C1A, 20 C1B, 21 ~{RST} (power), 22 ~{XAO} (power), 23 ISET, 24 NC, 25 NC, 26 AGND, 27 IFB6, 28 IFB5, 29 IFB4, 30 IFB3 (power), 31 IFB2 (power), 32 IFB1, 33 PGND, 34 SW3, 35 OVP, 36 NC, 37 NC, 38 PWM, 39 EN, 40 COMP3, 41 WP, 42 SDA (power), 43 SCL (power), 44 NEG, 45 VCOM, 46 COMP1, 47 BGND, 48 NC, 49 tp

## TPS65286
designator DA?, comment TPS65286RHD
6-A Output Current Synchronous Buck Regulator; Value: TPS65286RHD
pins: 1 VIN, 2 VIN, 3 VIN, 4 PGND, 5 PGND, 6 PGND, 7 V7V, 8 MODE/SYNC, 9 EN, 10 SW_OUT2, 11 SW_OUT1, 12 SW_EN2, 13 SW_EN1, 14 ~{FAULT2}, 15 ~{FAULT1}, 16 SW_IN1, 17 SW_IN2, 18 BST, 19 LX, 20 LX, 21 LX, 22 SS, 23 FB, 24 COMP, 25 RLIM, 26 RSET1, 27 RSET2, 28 AGND, 29 TP

## TPS74701DRC
designator DA?
500mA Low-Dropout Linear Regulator; Value: TPS74701DRC
pins: 1 IN, 2 IN, 3 PG, 4 BIAS, 5 EN, 6 GND, 7 SS, 8 FB, 9 OUT, 10 OUT, 11 TP

## TRB-12VDC-SB3-CD
designator K?
Реле; Value: TRB-12VDC-SB3-CD
pins: 1, 2, 3, 4, 5, 6

## TS3DV520ERHUR
designator DA?
5-CHANNEL DIFFERENTIAL 10:20 MULTIPLEXER SWITCH; Value: TS3DV520ERHUR
pins: 1 GND, 2 A0, 3 A1, 4 VCC (power), 5 N.C. (power), 6 GND (power), 7 A2 (power), 8 A3, 9 GND (power), 10 VCC (power), 11 A4 (power), 12 A5 (power), 13 GND (power), 14 A6, 15 A7, 16 GND (power), 17 SEL (power), 18 VCC (power), 19 A8 (power), 20 A9 (power), 21 GND (power), 22 8B1 (power), 23 9B1 (power), 24 GND (power), 25 8B2 (power), 26 9B2 (power), 27 VCC (power), 28 GND (power), 29 7B2 (power), 30 6B2 (power), 31 7B1 (power), 32 6B1 (power), 33 GND (power), 34 5B2 (power), 35 4B2 (power), 36 5B1 (power), 37 4B1 (power), 38 VCC (power), 39 GND (power), 40 3B2 (power), 41 2B2 (power), 42 3B1 (power), 43 2B1 (power), 44 GND (power), 45 1B2 (power), 46 0B2 (power), 47 1B1 (power), 48 0B1 (power), 49 GND (power), 50 VCC (power), 51 N.C. (power), 52 N.C. (power), 53 GND (power), 54 N.C. (power), 55 GND (power), 56 VCC (power), 57 TP (power)

## TS3DV520ERUAR
designator DA?
5-CHANNEL DIFFERENTIAL 10:20 MULTIPLEXER SWITCH; Value: TS3DV520ERUAR
pins: 1 VCC, 2 A0, 3 A1, 4 VCC (power), 5 A2 (power), 6 A3 (power), 7 VCC (power), 8 A4, 9 A5 (power), 10 A6 (power), 11 A7 (power), 12 SEL (power), 13 VCC (power), 14 A8, 15 A9, 16 8B1 (power), 17 NC (power), 18 9B1 (power), 19 N.C. (power), 20 8B2 (power), 21 9B2 (power), 22 VCC (power), 23 7B2 (power), 24 6B2 (power), 25 7B1 (power), 26 6B1 (power), 27 5B2 (power), 28 4B2 (power), 29 5B1 (power), 30 4B1 (power), 31 VCC (power), 32 3B2 (power), 33 2B2 (power), 34 3B1 (power), 35 2B1 (power), 36 1B2 (power), 37 0B2 (power), 38 1B1 (power), 39 0B1 (power), 40 VCC (power), 41 NC (power), 42 NC (power), 43 TP (power)

## TS3USB3200
designator DA?
USB 2.0 Hi-Speed Switch; Value: TS3USB3200
pins: 1 GND, 2 D+, 3 D–, 4 PSEL, 5 SEL1, 6 USB–, 7 USB+, 8 GND, 9 SEL2, 10 MHL–, 11 MHL+, 12 ID_USB, 13 ID_MHL, 14 ID_COM, 15 VBUS, 16 VCC

## TS5A3157
designator DA?
м/сх; Value: TS5A3157
pins: 1 NO (power), 2 GND, 3 NC (power) hidden, 3 NC, 4 COM, 5 V+, 6 B hidden, 6 IN

## TS321
designator DA?, comment TS321ILT
м/сх; Value: TS321ILT
pins: 1 OUT (power), 2 Vcc-, 3 IN+, 4 IN-, 5 Vcc+

## TTWB1010LD
designator T?
Transformers for Digital Audio Data Transmission; Value: TTWB1010LD
pins: 1, 2 hidden, 3, 4, 5 hidden, 6

## TXS0102DCTR
designator DD?
2-Bit Bidirectional Voltage-Level Shifter for Open-Drain and Push-Pull Application 8-SM8 -40 to 85; Value: TXS0102DCTR
pins: 1 B2 (io), 2 GND (power), 3 VCCA (power), 4 A2 (io), 5 A1 (io), 6 OE (in), 7 VCCB (power), 8 B1 (io)

## TXS0108EPW
designator DD?
Микросхема
pins: 1 A1 (io), 2 VCCA (power), 3 A2 (io), 4 A3 (io), 5 A4 (io), 6 A5 (io), 7 A6 (io), 8 A7 (io), 9 A8 (io), 10 OE (in), 11 GND (power), 12 B8 (io), 13 B7 (io), 14 B6 (io), 15 B5 (io), 16 B4 (io), 17 B3 (io), 18 B2 (io), 19 VCCB (power), 20 B1 (io)

## TXS02612RTWR
designator DD?
Микросхема
pins: 1 DAT2A (io), 2 GND (power), 3 DAT3A (io), 4 CMDA (io), 5 VCCA (power), 6 DAT0A (io), 7 DAT1A (io), 8 DAT2B1 (io), 9 CLKA (in), 10 DAT3B1 (io), 11 GND (power), 12 CMDB1 (io), 13 CLKB1 (out), 14 DAT0B1 (io), 15 DAT1B1 (io), 16 DAT1B0 (io), 17 VCCB1 (power), 18 DAT0B0 (io), 19 CLKB0 (out), 20 CMDB0 (io), 21 VCCB0 (power), 22 DAT3B0 (io), 23 DAT2B0 (io), 24 SEL (in), 25 P_GND (power)

## TYCO_1367073-1
designator X?
pins: 1 VEET, 2 TX_FAULT, 3 TX_DISABLE, 4 SDA, 5 SCL, 6 MOD_ABS, 7 RS0, 8 LOS, 9 RS1, 10 VEER, 11 VEER, 12 RD-, 13 RD+, 14 VEER, 15 VCCR, 16 VCCT, 17 VEET, 18 TD+, 19 TD-, 20 VEET

## TYCO_2227303-1
designator W?
pins: S1 CAGE, S2 CAGE, S3 CAGE, S4 CAGE, S5 CAGE, S6 CAGE, S7 CAGE, S8 CAGE, S9 CAGE, S10 CAGE, S11 CAGE, S12 CAGE, S13 CAGE, S14 CAGE, S15 CAGE, S16 CAGE, S17 CAGE, S18 CAGE, S19 CAGE, S20 CAGE

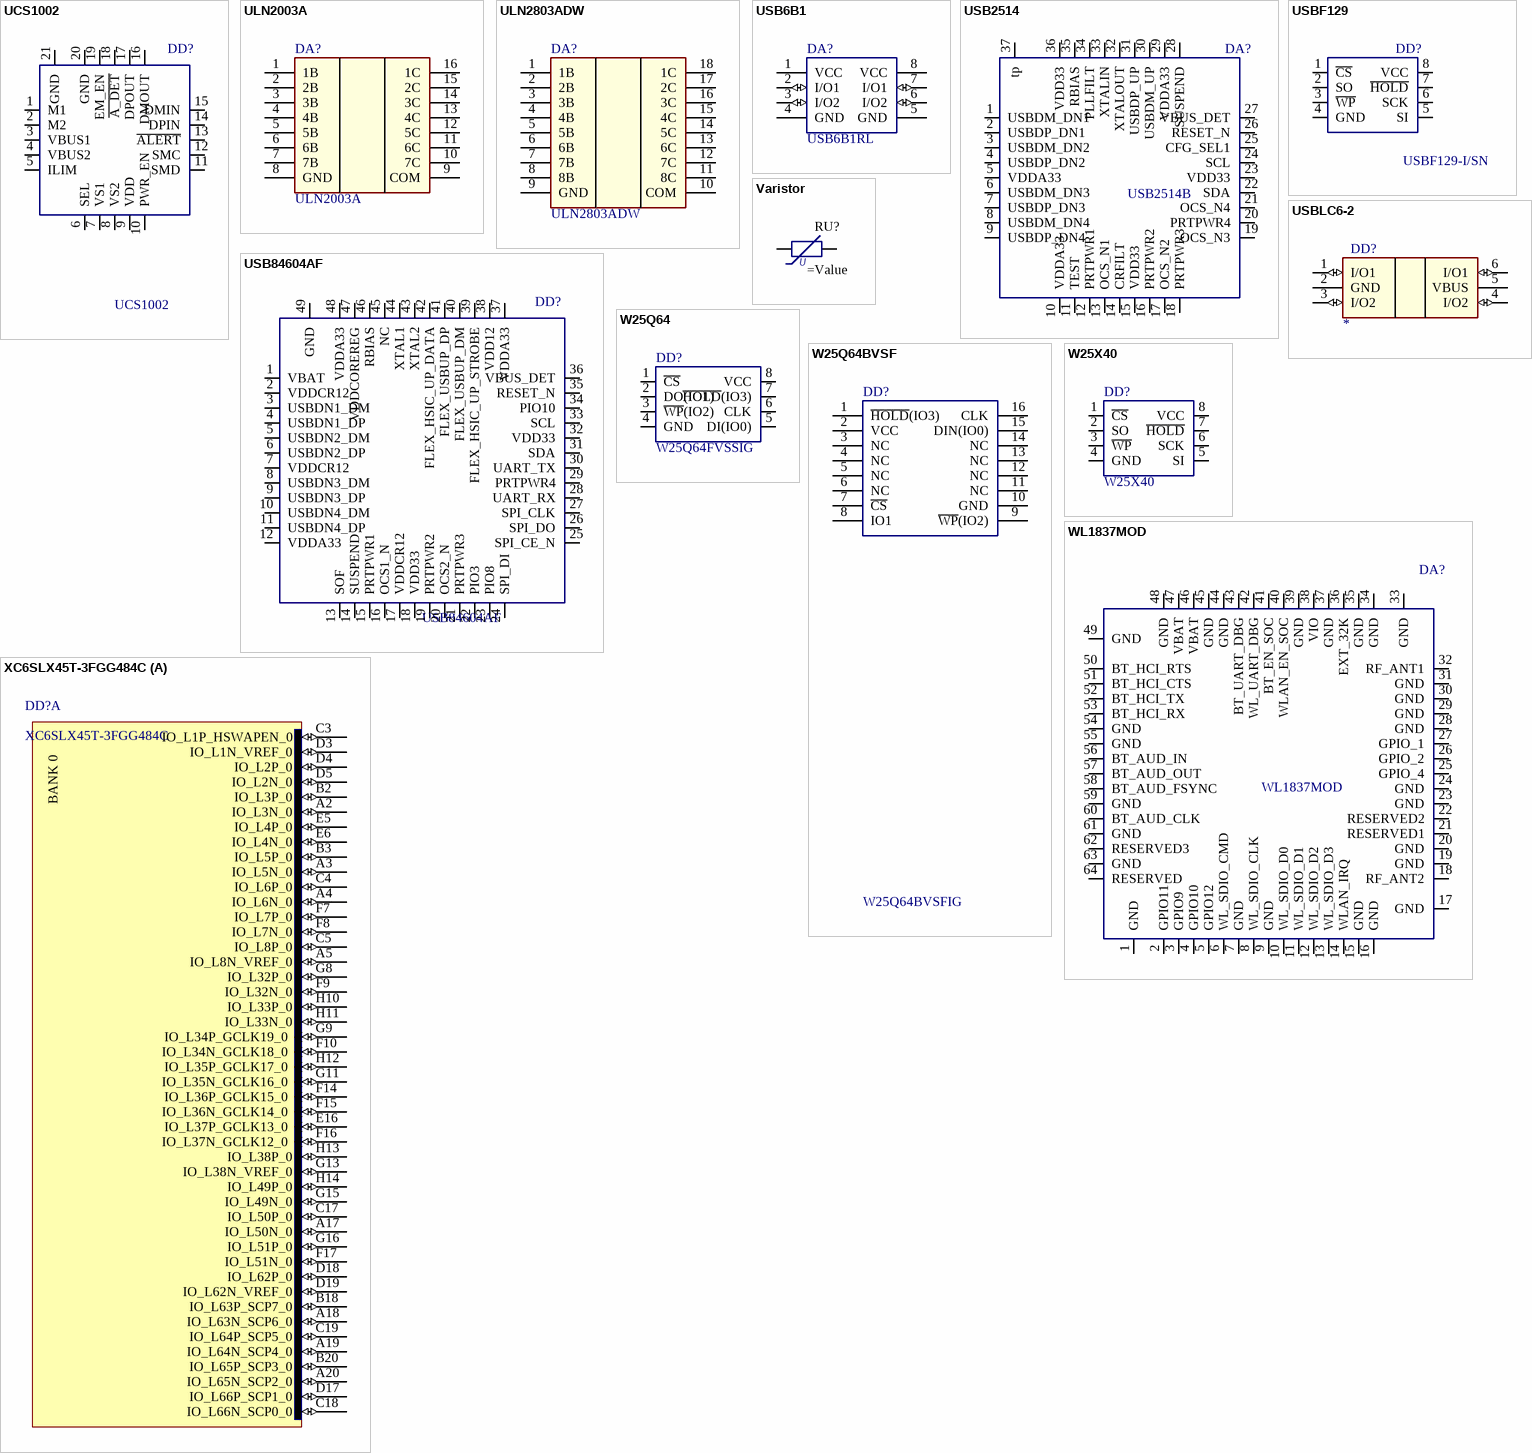
[diagram p41: symbols UCS1002 to XC6SLX45T-3FGG484C]

## UCS1002
designator DD?
USB Port Power Controller; Value: UCS1002
pins: 1 M1, 2 M2, 3 VBUS1, 4 VBUS2, 5 ILIM, 6 SEL, 7 VS1, 8 VS2, 9 VDD, 10 PWR_EN, 11 SMD, 12 SMC, 13 ~{ALERT}, 14 DPIN, 15 DMIN, 16 DMOUT, 17 DPOUT, 18 ~{A_DET}, 19 EM_EN, 20 GND, 21 GND

## ULN2003A
designator DA?
HIGH-VOLTAGE, HIGH-CURRENT DARLINGTON TRANSISTOR ARRAYS; Value: ULN2003A
pins: 1 1B, 2 2B, 3 3B, 4 4B, 5 5B, 6 6B, 7 7B, 8 GND, 9 COM, 10 7C, 11 6C, 12 5C, 13 4C, 14 3C, 15 2C, 16 1C

## ULN2803ADW
designator DA?
sn74avc8t245; Value: ULN2803ADW
pins: 1 1B, 2 2B, 3 3B, 4 4B, 5 5B, 6 6B, 7 7B, 8 8B, 9 GND, 10 COM, 11 8C, 12 7C, 13 6C, 14 5C, 15 4C, 16 3C, 17 2C, 18 1C

## USB6B1
designator DA?, comment USB6B1RL
Микросхема; Value: USB6B1RL
pins: 1 VCC (power) "Supply", 2 I/O1 (io) "Input/Output 1", 3 I/O2 (io) "Input/Output 2", 4 GND (power) "Ground", 5 GND (power) "Ground", 6 I/O2 (io) "Input/Output 2", 7 I/O1 (io) "Input/Output 1", 8 VCC (power) "Supply"

## USB2514
designator DA?, comment USB2514B
USB2514B USB 2.0 Hi-Speed Hub Controller; Value: USB2514B
pins: 1 USBDM_DN1, 2 USBDP_DN1, 3 USBDM_DN2, 4 USBDP_DN2, 5 VDDA33, 6 USBDM_DN3, 7 USBDP_DN3, 8 USBDM_DN4, 9 USBDP_DN4, 10 VDDA33, 11 TEST, 12 PRTPWR1, 13 OCS_N1, 14 CRFILT, 15 VDD33, 16 PRTPWR2, 17 OCS_N2, 18 PRTPWR3, 19 OCS_N3, 20 PRTPWR4, 21 OCS_N4, 22 SDA, 23 VDD33, 24 SCL, 25 CFG_SEL1, 26 RESET_N, 27 VBUS_DET, 28 SUSPEND, 29 VDDA33, 30 USBDM_UP, 31 USBDP_UP, 32 XTALOUT, 33 XTALIN, 34 PLLFILT, 35 RBIAS, 36 VDD33, 37 tp

## USB84604AF
designator DD?
Hi-Speed 4-Port Controller Hub; Value: USB84604AF
pins: 1 VBAT, 2 VDDCR12, 3 USBDN1_DM, 4 USBDN1_DP, 5 USBDN2_DM, 6 USBDN2_DP, 7 VDDCR12, 8 USBDN3_DM, 9 USBDN3_DP, 10 USBDN4_DM, 11 USBDN4_DP, 12 VDDA33, 13 SOF, 14 SUSPEND, 15 PRTPWR1, 16 OCS1_N, 17 VDDCR12, 18 VDD33, 19 PRTPWR2, 20 OCS2_N, 21 PRTPWR3, 22 PIO3, 23 PIO8, 24 SPI_DI, 25 SPI_CE_N, 26 SPI_DO, 27 SPI_CLK, 28 UART_RX, 29 PRTPWR4, 30 UART_TX, 31 SDA, 32 VDD33, 33 SCL, 34 PIO10, 35 RESET_N, 36 VBUS_DET, 37 VDDA33, 38 VDD12, 39 FLEX_HSIC_UP_STROBE, 40 FLEX_USBUP_DM, 41 FLEX_USBUP_DP, 42 FLEX_HSIC_UP_DATA, 43 XTAL2, 44 XTAL1, 45 NC, 46 RBIAS, 47 VDDCOREREG, 48 VDDA33, 49 GND

## USBF129
designator DD?, comment USBF129-I/SN
Value: USBF129-I/SN
pins: 1 ~{CS}, 2 SO, 3 ~{WP}, 4 GND, 5 SI, 6 SCK, 7 ~{HOLD}, 8 VCC

## USBLC6-2
designator DD?
pins: 1 I/O1 (io), 2 GND (power), 3 I/O2 (io), 4 I/O2 (io), 5 VBUS (power), 6 I/O1 (io)

## Varistor
designator RU?
Varistor
pins: 1, 2
text: U

## W25Q64
designator DD?, comment W25Q64FVSSIG
Value: W25Q64FVSSIG
pins: 1 ~{CS}, 2 DO(IO1), 3 ~{WP}(IO2), 4 GND, 5 DI(IO0), 6 CLK, 7 ~{HOLD}(IO3), 8 VCC

## W25Q64BVSF
designator DD?, comment W25Q64BVSFIG
Value: W25Q64BVSFIG
pins: 1 ~{HOLD}(IO3), 2 VCC, 3 NC, 4 NC, 5 NC, 6 NC, 7 ~{CS}, 8 IO1, 9 ~{WP}(IO2), 10 GND, 11 NC, 12 NC, 13 NC, 14 NC, 15 DIN(IO0), 16 CLK

## W25X40
designator DD?
Value: W25X40
pins: 1 ~{CS}, 2 SO, 3 ~{WP}, 4 GND, 5 SI, 6 SCK, 7 ~{HOLD}, 8 VCC

## WL1837MOD
designator DA?
WL18x7MOD WiLink™ 8 Dual-Band Industrial Module –  Wi-Fi, Bluetooth, and Bluetooth Low Energy (LE); Value: WL1837MOD
pins: 1 GND (power), 2 GPIO11, 3 GPIO9, 4 GPIO10, 5 GPIO12, 6 WL_SDIO_CMD, 7 GND (power), 8 WL_SDIO_CLK, 9 GND (power), 10 WL_SDIO_D0, 11 WL_SDIO_D1, 12 WL_SDIO_D2, 13 WL_SDIO_D3, 14 WLAN_IRQ, 15 GND (power), 16 GND (power), 17 GND (power), 18 RF_ANT2, 19 GND (power), 20 GND (power), 21 RESERVED1, 22 RESERVED2, 23 GND (power), 24 GND (power), 25 GPIO_4, 26 GPIO_2, 27 GPIO_1, 28 GND (power), 29 GND (power), 30 GND (power), 31 GND (power), 32 RF_ANT1, 33 GND (power), 34 GND (power), 35 GND (power), 36 EXT_32K, 37 GND (power), 38 VIO (power), 39 GND (power), 40 WLAN_EN_SOC, 41 BT_EN_SOC, 42 WL_UART_DBG, 43 BT_UART_DBG, 44 GND (power), 45 GND (power), 46 VBAT (power), 47 VBAT (power), 48 GND (power), 49 GND (power), 50 BT_HCI_RTS, 51 BT_HCI_CTS, 52 BT_HCI_TX, 53 BT_HCI_RX, 54 GND (power), 55 GND (power), 56 BT_AUD_IN, 57 BT_AUD_OUT, 58 BT_AUD_FSYNC, 59 GND (power), 60 BT_AUD_CLK, 61 GND (power), 62 RESERVED3, 63 GND (power), 64 RESERVED (power), G1 GND (power) hidden to GND, G2 GND (power) hidden to GND, G3 GND (power) hidden to GND, G4 GND (power) hidden to GND, G5 GND (power) hidden to GND, G6 GND (power) hidden to GND, G7 GND (power) hidden to GND, G8 GND (power) hidden to GND, G9 GND (power) hidden to GND, G10 GND (power) hidden to GND, G11 GND (power) hidden to GND, G12 GND (power) hidden to GND, G13 GND (power) hidden to GND, G14 GND (power) hidden to GND, G15 GND (power) hidden to GND, G16 GND (power) hidden to GND, G17 GND (power) hidden to GND, G18 GND (power) hidden to GND, G19 GND (power) hidden to GND, G20 GND (power) hidden to GND, G21 GND (power) hidden to GND, G22 GND (power) hidden to GND, G23 GND (power) hidden to GND, G24 GND (power) hidden to GND, G25 GND (power) hidden to GND, G26 GND (power) hidden to GND, G27 GND (power) hidden to GND, G28 GND (power) hidden to GND, G29 GND (power) hidden to GND, G30 GND (power) hidden to GND, G31 GND (power) hidden to GND, G32 GND (power) hidden to GND, G33 GND (power) hidden to GND, G34 GND (power) hidden to GND, G35 GND (power) hidden to GND, G36 GND (power) hidden to GND

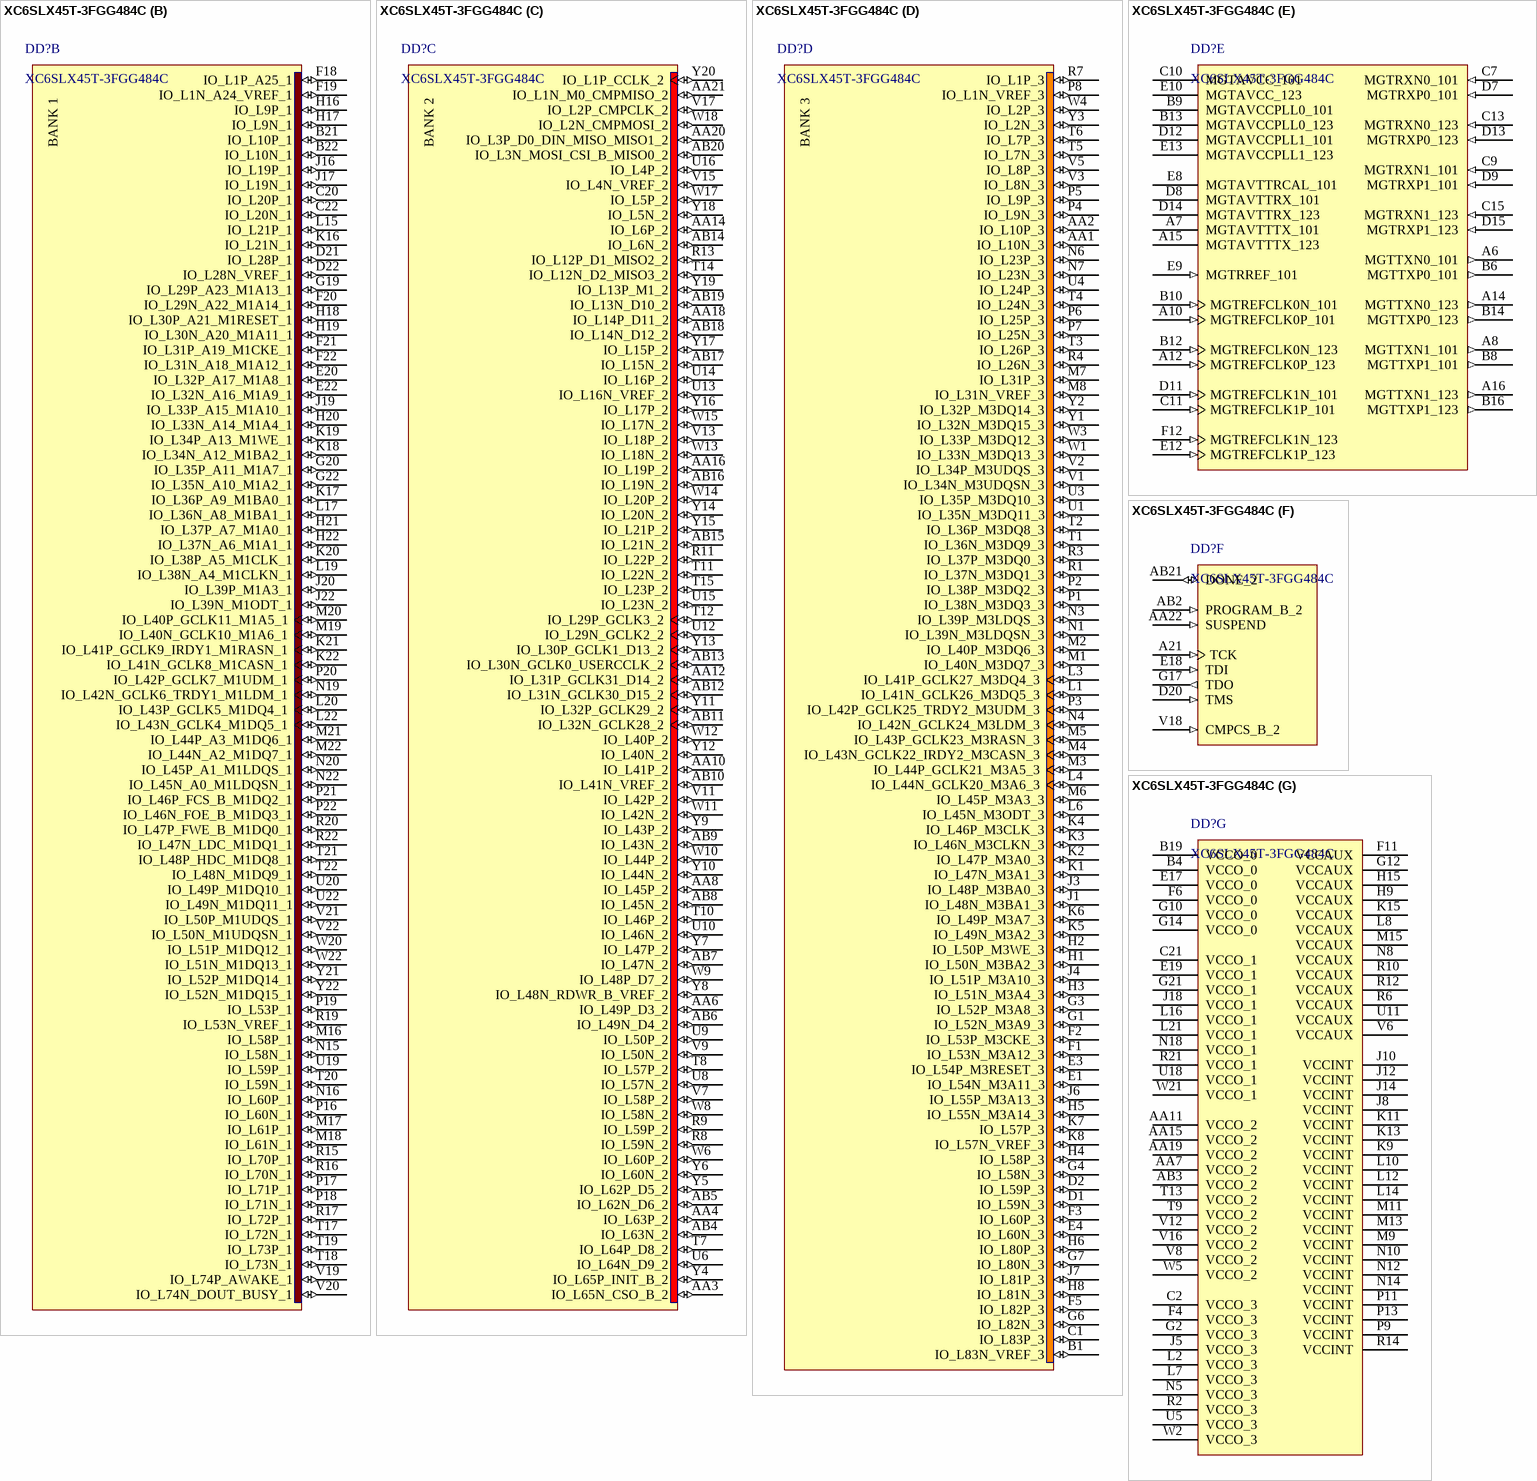
[diagram p42: symbol XC6SLX45T-3FGG484C]

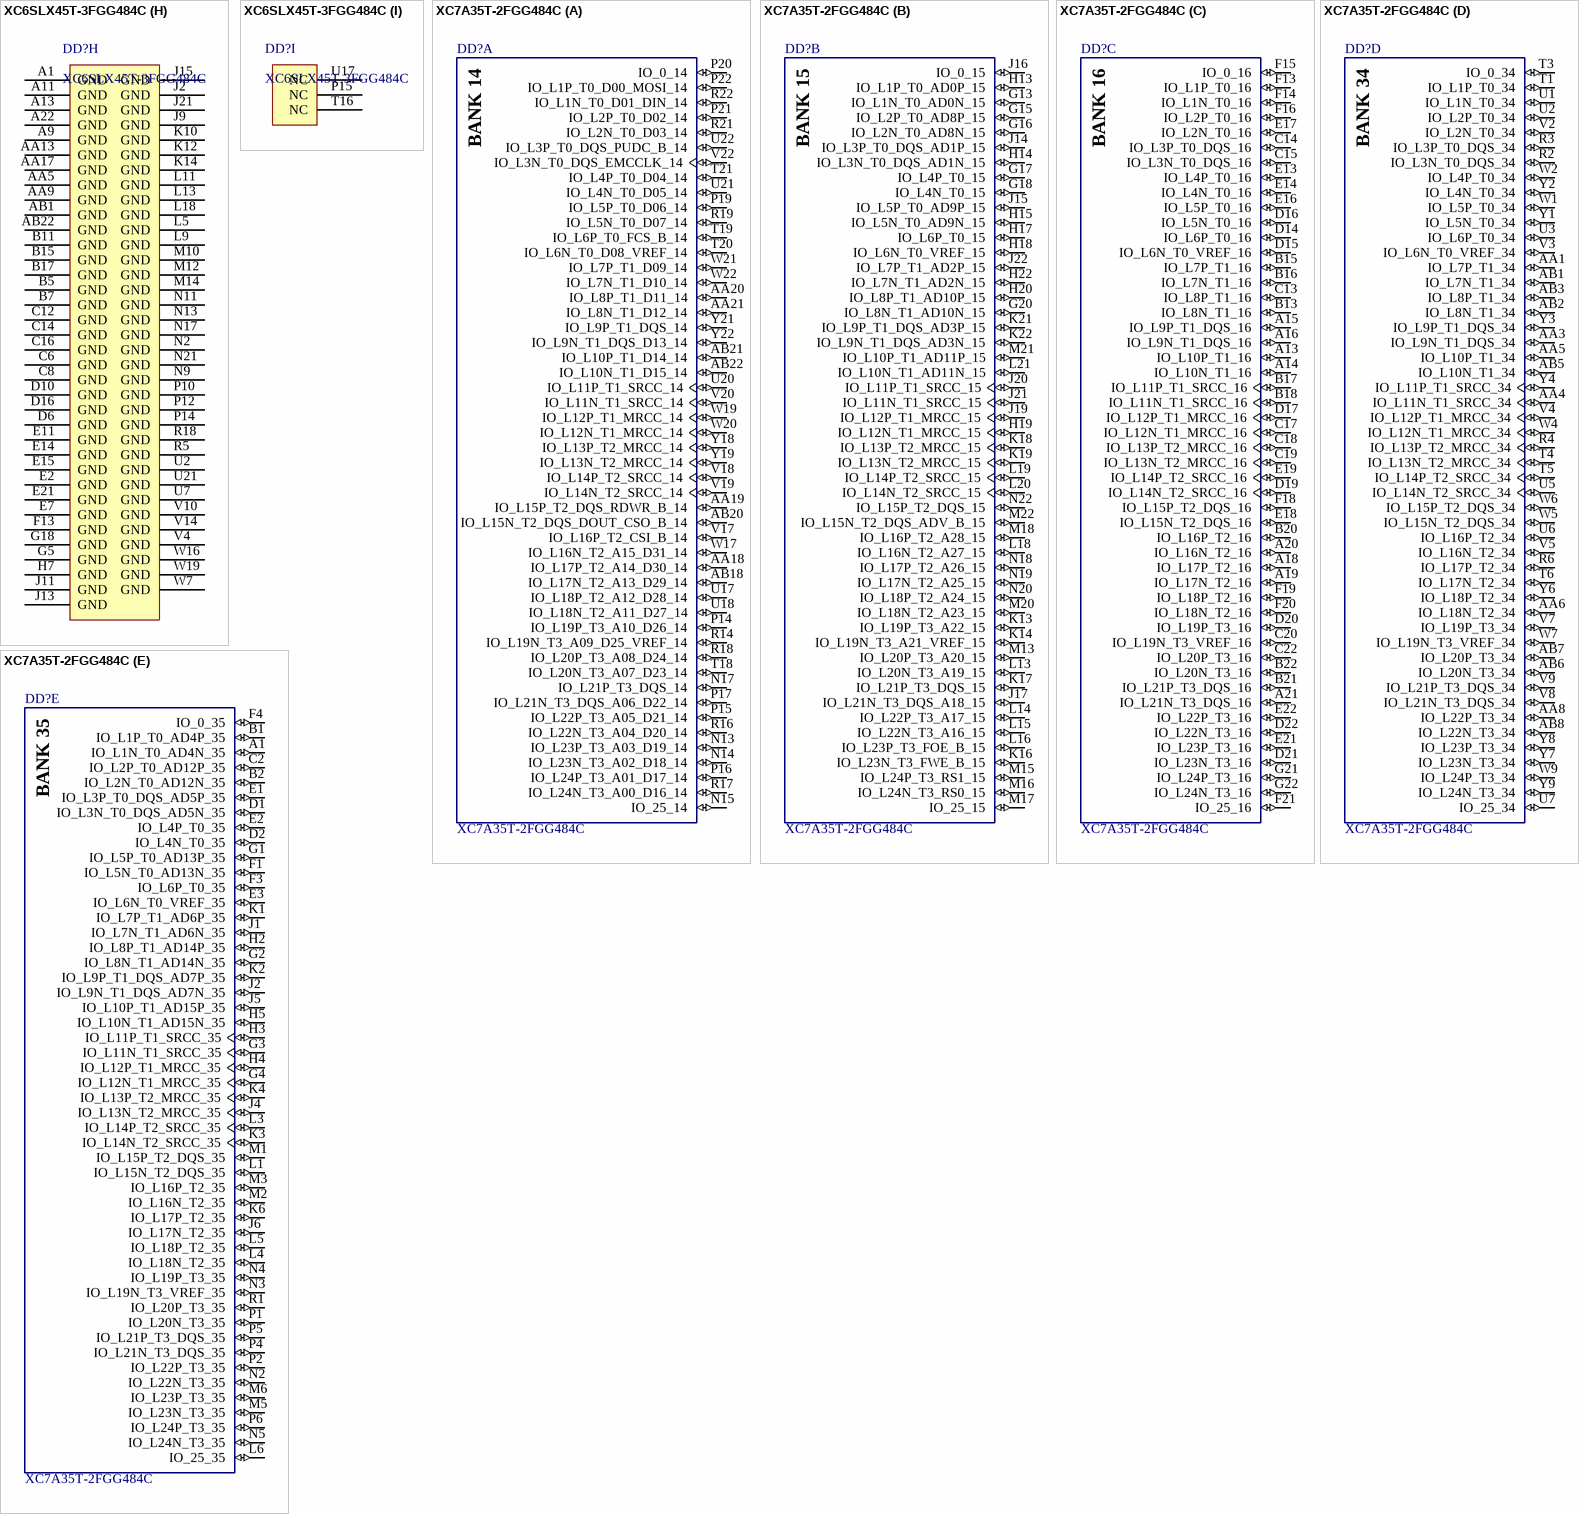
[diagram p43: symbols XC6SLX45T-3FGG484C to XC7A35T-2FGG484C]